# Altium integrated library AMCC PowerPC 440.IntLib: 120 symbols (part 31 of 33)
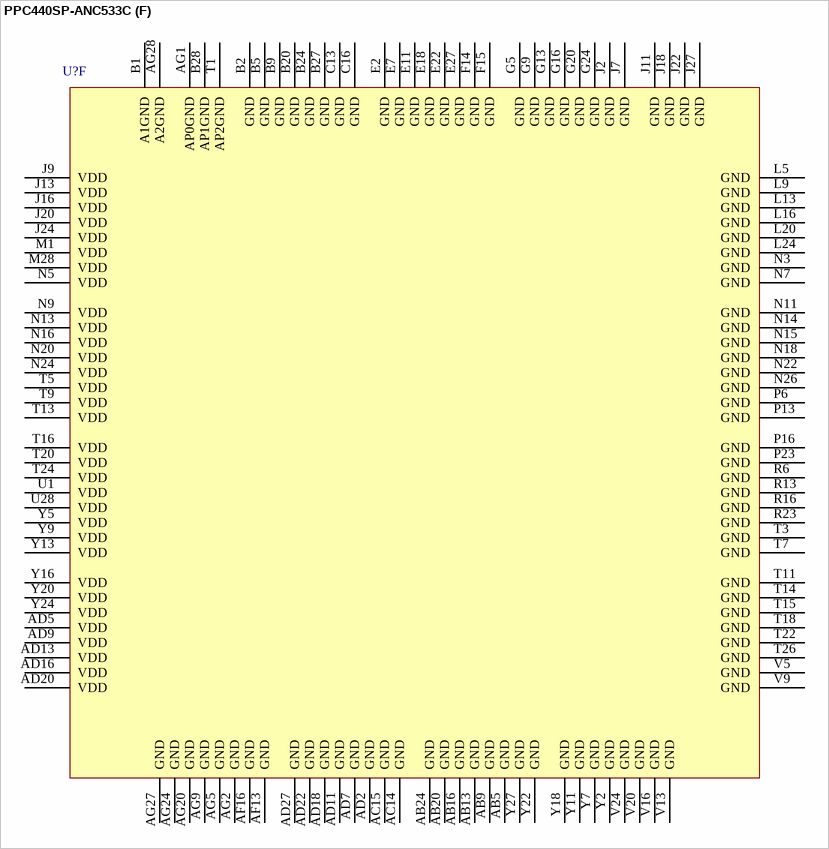
[diagram p429: symbol PPC440SP-ANC533C]

## PPC440SP-ANC533C
designator U?
PowerPC 440SP Embedded Processor, 533MHz, 29mm, 783 Ball FC-PBGA, Pb-Free, rev C; Published: 2-Mar-2006; LatestRevisionDate: 13-Apr-2006; LatestRevisionNote: IPC-7351 Footprint Added.; DatasheetVersion: rev1.18, May-2006; PackageVersion: Nov-2005; PackageReference: FC-PBGA783; Publisher: Altium Limited; PackageDescription: 783-Ball Flip Chip Plastic Ball Grid Array; ComponentLink1Description: Manufacturer Link; ComponentLink1URL: http://www.amcc.com/; ComponentLink2Description: Datasheet; ComponentLink2URL: https://www.amcc.com/MyAMCC/retrieveDocument/PowerPC/440SP/PPC440SP_DS2013_v1_18.pdf
footprint FC-PBGA783 (BGA, 783-Leads, Body 29x29mm, Pitch 1mm)
3D model PPC440SP-FC-PBGA783 (783-Ball Flip Chip Plastic Ball Grid Array)
part A pins: A2 EMCTxD7 (out), A3 EMCTxErr (out), A4 PerClk (out), A10 TDI (in), A14 SysPartSel (in), A18 TestEn (in), AA23 ECC5 (io), AA24 DM8 (out), AA26 DM1 (out), AA27 ~{DQS1} (io), AA28 DQS1 (io), AB25 ~{DQS8} (io), AB26 DQS8 (io), AC23 ECC3 (io), AC24 ECC0 (io), AD21 BA0 (out), AD23 ECC4 (io), AD25 ~{DQS0} (io), AD26 DQS0 (io), AE20 BA1 (out), AE23 ClkEn0 (out), AE24 ClkEn1 (out), AE25 BA2 (out), AE26 DM0 (out), AF20 ECC7 (io), AH24 ~{RAS} (out), AH25 ~{CAS} (out), B3 PerErr (in), B4 ~{PerBLast} (out), B6 ~{HISRRst} (in), B8 EMCGTxClk (in), B10 ~{TRST} (in), C2 PerPar0 (io), C4 EMCTxEn (out), C10 TMS (in), D1 EMCMDClk (out), D2 EMCCD (in), D3 EMCRxClk (in), D4 PerData3 (io), D8 TmrClk (in), D10 TCK (in), D11 TDO (out), D12 EMCRefClk (in), E1 EMCTxClk (in), E3 EMCCrS (in), E4 EMCMDIO (io), E6 PerData5 (io), E12 ~{PerCS1}[GPIO09][TrcTS0] (io), F1 EMCTxD1 (out), F2 EMCTxD0 (out), F3 EMCRxD2 (in), F4 EMCRxD0 (in), F5 EMCRxD6 (in), F6 EMCRxD7 (in), F7 EMCRxDV (in), F12 ~{PerOE} (out), G1 EMCRxD3 (in), G3 EMCTxD3 (out), G4 EMCRxD1 (in), G6 PerData6 (io), G8 PerData4 (io), G12 PerReady[GPIO08][TrcES4] (io), G15 ~{SysRes}e~{t} (in), H1 EMCTxD2 (out), H2 EMCRxD5 (in), H3 EMCRxD4 (in), H4 EMCTxD4 (out), H5 PerData0 (io), H6 PerR/~{W} (out), H7 PerData2 (io), H10 ~{PerCS2}[GPIO10][TrcTS1] (io), H11 ~{ExtReset} (out), J1 EMCRxErr (in), J3 SysClk (in), J4 PerAddr00 (out), J6 PerData7 (io), J8 PerData1 (io), J19 SysErr (out), K1 PerAddr19 (out), K2 PerAddr20 (out), K3 EMCTxD6 (out), K4 EMCTxD5 (out), K5 PerAddr02 (out), K6 PerAddr01 (out), K7 PerAddr07 (out), K8 PerAddr08 (out), K10 ~{PerWE} (out), K18 ~{Halt} (in), K25 DQS4 (io), K26 ~{DQS4} (io), K27 DM4 (out), L1 PerAddr17 (out), L3 PerAddr15 (out), L4 PerAddr16 (out), L6 PerAddr04 (out), L8 PerAddr06 (out), L25 DQS5 (io), L26 ~{DQS5} (io), M4 PerAddr18 (out), M5 PerAddr09 (out), M6 ~{PerCS0} (out), M7 PerAddr05 (out), M8 PerAddr03 (out), M21 DM5 (out), N6 PerAddr11 (out), N8 PerAddr10 (out), N27 DQS3 (io), N28 ~{DQS3} (io), P5 PerAddr13 (out), P7 PerAddr14 (out), P8 PerAddr12 (out), P22 ~{BankSel1} (out), P26 DM3 (out), R5 PerAddr22 (out), R7 PerAddr21 (out), R8 PerAddr23 (out), R9 ~{PerBE0}[GPIO17][UART2_Tx] (io), R21 DM6 (out), R25 ~{DQS6} (io), R26 DQS6 (io), T23 ~{BankSel0} (out), U19 DM7 (out), U25 ~{DQS2} (io), U26 DQS2 (io), V19 ~{WE} (out), V25 DM2 (out), W19 ECC6 (io), W26 ~{DQS7} (io), W27 DQS7 (io), Y21 ECC2 (io), Y23 ECC1 (io)
part B pins: A5 GPIO13[IRQ2][TrcTS4] (io), A6 UART1_Tx[GPIO31] (io), A7 UART1_Rx[GPIO30] (io), A8 ~{UART0_DCD} (in), A9 UARTSerClk (in), A11 ~{UART0_DTR} (out), A13 ~{UART0_RI} (in), AA12 GPIO00[TrcClk][~{PCIX0Req2}] (io), AA20 MemVRef0 (in), AA21 MemVRef1 (in), AA22 MemODT0 (out), AA25 MemData13 (io), AB21 MemDCFdbkD (out), AB23 MemData14 (io), AB28 MemData09 (io), AC13 GPIO02[TrcBS1][~{PCIX0Gnt2}] (io), AC21 MemDCFdbkR (in), AC22 MemODT1 (out), AC25 MemData07 (io), AC26 MemData03 (io), AC27 MemData04 (io), AC28 MemData10 (io), AD19 MemAddr02 (out), AD28 MemData00 (io), AE19 MemAddr03 (out), AE21 MemAddr01 (out), AE22 MemAddr06 (out), AE27 MemData01 (io), AE28 MemData05 (io), AF11 GPIO03[TrcBS2][~{PCIX0Gnt3}] (io), AF19 MemAddr11 (out), AF21 MemAddr07 (out), AF22 MemAddr08 (out), AF23 MemAddr00 (out), AF24 MemAddr14 (out), AF25 MemData06 (io), AF27 MemData02 (io), AG21 MemAddr10 (out), AG23 MemAddr09 (out), AG25 ~{MemClkOut0} (out), AG26 MemClkOut0 (out), AH20 MemAddr12 (out), AH21 MemAddr13 (out), AH22 MemAddr04 (out), AH23 MemAddr05 (out), AH26 MemClkOut1 (out), AH27 ~{MemClkOut1} (out), C5 GPIO14[IRQ3][TrcTS5] (io), C6 GPIO12[IRQ1][TrcTS3] (io), C7 GPIO11[IRQ0][TrcTS2] (io), C8 UART0_Tx (out), C9 ~{UART0_CTS} (in), C11 ~{UART0_DSR} (in), C23 GPIO04[TrcES0][~{PCIX1Req2}] (io), D5 GPIO16[IRQ5][UART2_Rx] (io), D6 GPIO15[IRQ4][TrcTS6] (io), D9 IIC0SClk (io), D21 GPIO06[TrcES2][~{PCIX1Gnt2}] (io), D23 GPIO07[TrcES3][~{PCIX1Gnt3}] (io), E8 IIC0SDA (io), E10 IIC1SDA (io), E23 GPIO05[TrcES1][~{PCIX1Req3}] (io), F8 IIC1SClk (io), F10 ~{UART1_DSR}/~{CTS} (in), F11 ~{UART0_RTS} (out), G10 ~{UART1}_/~{DTR}/~{RTS} (out), H12 UART0_Rx (in), H26 MemData39 (io), H27 MemData36 (io), H28 MemData35 (io), J26 MemData32 (io), J28 MemData37 (io), K24 MemData45 (io), K28 MemData33 (io), L28 MemData34 (io), M22 MemData42 (io), M23 MemData41 (io), M24 MemData46 (io), M25 MemData31 (io), M26 MemData28 (io), M27 MemData27 (io), N19 MemData47 (io), N21 MemData44 (io), N23 MemData43 (io), N25 MemData24 (io), P20 MemData40 (io), P21 MemData38 (io), P24 MemData54 (io), P25 MemData29 (io), P28 MemData25 (io), R20 MemData53 (io), R22 MemData49 (io), R24 MemData50 (io), R28 MemData26 (io), T19 MemData52 (io), T21 MemData55 (io), T25 MemData19 (io), T27 MemData20 (io), T28 MemData23 (io), U20 MemData57 (io), U21 MemData58 (io), U22 MemData51 (io), U23 MemData48 (io), U24 MemData30 (io), U27 MemData16 (io), V21 MemData62 (io), V23 MemData61 (io), V26 MemData21 (io), V28 MemData17 (io), W20 MemData63 (io), W21 MemData60 (io), W22 MemData56 (io), W23 MemData22 (io), W24 MemData59 (io), W25 MemData15 (io), W28 MemData18 (io), Y12 GPIO01[TrcBS0][~{PCIX0Req3}] (io), Y25 MemData12 (io), Y26 MemData08 (io), Y28 MemData11 (io)
part C pins: A15 PCIX1AD16 (io), A16 PCIX1AD19 (io), A19 PCIX1AD03 (io), AA8 PCIX0CalG0 (in), AA9 PCIX0AD09 (io), AA10 PCIX0AD13 (io), AA11 PCIX0AD07 (io), AA13 PCIX0Cap (in), AA14 PCIX0AD58 (io), AA15 PCIX0AD63 (io), AA16 PCIX0AD61 (io), AA17 PCIX0AD43 (io), AA18 PCIX0AD37 (io), AA19 PCIX0CalR1 (in), AB8 PCIX0CalR0 (in), AB10 PCIX0AD14 (io), AB12 ~{PCIX0INTA} (out), AB14 PCIX0AD56 (io), AB15 PCIX0AD57 (io), AB17 PCIX0AD45 (io), AB19 PCIX0AD47 (io), AC8 PCIX0AD10 (io), AC9 PCIX0AD08 (io), AC10 PCIX0VRef1 (in), AC11 PCIX0VRef0 (in), AC12 ~{PCIX0Frame} (io), AC16 PCIX0AD62 (io), AC17 PCIX0AD46 (io), AC18 PCIX0AD48 (io), AC19 PCIX0AD44 (io), AC20 PCIX0AD39 (io), AD3 PCIX0ECC5 (io), AD4 PCIX0AD28 (io), AD6 PCIX0AD21 (io), AD8 PCIX0AD11 (io), AD10 PCIX0AD12 (io), AD12 ~{PCIX0SErr} (io), AD14 PCIX0M66En (in), AD15 PCIX0AD55 (io), AD17 PCIX0AD36 (io), AE1 PCIX0AD30 (io), AE2 PCIX0AD31 (io), AE3 PCIX0AD27 (io), AE5 PCIX0AD29 (io), AE6 ~{PCIX0BE3} (io), AE7 ~{PCIX0BE2} (io), AE8 PCIX0AD18 (io), AE9 PCIX0AD03 (io), AE10 PCIX0AD02 (io), AE11 PCIX0AD01 (io), AE12 PCIX0AD00 (io), AE13 ~{PCIX0Stop} (io), AE14 ~{PCIX0BE7} (io), AE15 PCIX0AD54 (io), AE16 ~{PCIX0BE6} (io), AE17 PCIX0AD40 (io), AE18 PCIX0AD32 (io), AF2 PCIX0AD26 (io), AF4 PCIX0AD20 (io), AF5 PCIX0AD19 (io), AF6 PCIX0AD16 (io), AF7 PCIX0AD17 (io), AF8 PCIX0AD23 (io), AF9 ~{PCIX0BE0} (io), AF10 PCIX0AD04 (io), AF12 PCIX0Clk (in), AF14 ~{PCIX0Gnt0}[GPIO18] (io), AF15 PCIX0AD52 (io), AF17 PCIX0AD51 (io), AF18 PCIX0AD33 (io), AG3 PCIX0ECC2 (io), AG4 PCIX0AD22 (io), AG6 PCIX0Par (io), AG8 ~{PCIX0Req64} (io), AG10 ~{PCIX0BE1} (io), AG12 ~{PCIX0Req1}[GPIO21] (io), AG13 ~{PCIX0Gnt1}[GPIO19] (io), AG16 PCIX0AD50 (io), AG17 ~{PCIX0BE5} (io), AG19 PCIX0AD35 (io), AH2 PCIX0AD24 (io), AH3 PCIX0AD25 (io), AH4 PCIX0ECC3 (io), AH5 PCIX0ECC4 (io), AH6 ~{PCIX0Ack64} (io), AH7 PCIX0AD15 (io), AH8 PCIX0AD05 (io), AH9 PCIX0AD06 (io), AH10 PCIX0VC (out), AH11 ~{PCIX0Req0}[GPIO20] (io), AH13 ~{PCIX0Reset} (io), AH14 PCIX0Par64 (io), AH15 PCIX0AD53 (io), AH16 ~{PCIX0BE4} (io), AH18 PCIX0AD49 (io), AH19 PCIX0AD34 (io), B13 PCIX1AD25 (io), B16 PCIX1AD11 (io), B17 PCIX1AD10 (io), C14 PCIX1AD17 (io), C15 PCIX1AD18 (io), C17 PCIX1AD08 (io), C18 PCIX1AD01 (io), D13 PCIX1AD24 (io), D15 PCIX1AD20 (io), D16 PCIX1AD09 (io), D18 PCIX1AD00 (io), E17 PCIX1AD12 (io), E21 PCIX1Clk (in), F16 PCIX1AD04 (io), F18 PCIX1AD02 (io), F19 PCIX1AD14 (io), F20 PCIX1AD06 (io), F21 PCIX1AD07 (io), G14 PCIX1CalG1 (in), G17 PCIX1AD22 (io), G19 PCIX1AD15 (io), G21 PCIX1Cap (in), H14 PCIX1CalR1 (in), H17 PCIX1AD21 (io), H18 PCIX1AD23 (io), H19 PCIX1AD13 (io), H20 PCIX1AD05 (io), K23 ~{PCIX1Ack64} (io), L19 PCIX1CalG0 (in), L21 PCIX1CalR0 (in), W11 ~{PCIX0PErr} (io), W12 ~{PCIX0TRDY} (io), W13 ~{PCIX0IRDY} (io), W16 PCIX0AD60 (io), W17 PCIX0AD42 (io), W18 PCIX0AD38 (io), Y10 ~{PCIX0DevSel} (io), Y14 PCIX0IDSel (in), Y15 PCIX0AD59 (io), Y17 PCIX0AD41 (io), Y19 PCIX0CalG1 (in)
part D pins: A20 ~{PCIX1Reset} (io), A21 PCIX1VC (out), A22 ~{PCIX1INTA} (out), A23 ~{PCIX1SErr} (io), A24 PCIX1Par64/PCIX2ECC7 (io), A25 PCIX1AD61 (io), A26 PCIX1AD60 (io), A27 PCIX1AD40 (io), AA1 PCIX2AD09 (io), AA2 ~{PCIX2BE1} (io), AA3 PCIX2AD12 (io), AA4 PCIX2AD13 (io), AA5 PCIX2AD23 (io), AA6 PCIX2ECC5 (io), AA7 PCIX2ECC2 (io), AB1 PCIX2AD04 (io), AB3 ~{PCIX2BE0} (io), AB4 PCIX2AD05 (io), AB6 PCIX2AD14 (io), AC1 PCIX2AD06 (io), AC2 PCIX2AD07 (io), AC3 PCIX2AD00 (io), AC4 PCIX2AD01 (io), AC5 PCIX2AD02 (io), AC6 PCIX2AD15 (io), AC7 PCIX2Par/PCIX2ECC0 (io), AD1 PCIX2AD03 (io), AE4 ~{PCIX2Req64}/PCIX2ECC6 (io), B12 PCIX1AD26 (io), B19 ~{PCIX1Gnt0}[GPIO22] (io), B21 ~{PCIX1Frame} (io), B23 PCIX1IDSel (in), B25 PCIX1AD56 (io), B26 PCIX1AD51 (io), C12 PCIX1AD27 (io), C19 ~{PCIX1Gnt1}[GPIO23] (io), C20 ~{PCIX1Req0}[GPIO24] (io), C21 ~{PCIX1Stop} (io), C22 ~{PCIX1Req1}[GPIO25] (io), C24 PCIX1AD57 (io), C25 PCIX1AD59 (io), C27 PCIX1AD42 (io), D14 ~{PCIX1BE2} (io), D17 ~{PCIX1BE1} (io), D19 ~{PCIX1DevSel} (io), D20 ~{PCIX1PErr} (io), D22 ~{PCIX1IRDY} (io), D24 PCIX1AD58 (io), D25 PCIX1AD62 (io), D26 ~{PCIX1BE4} (io), D27 PCIX1AD43 (io), D28 PCIX1AD35 (io), E14 ~{PCIX1BE3} (io), E15 PCIX1AD28 (io), E19 ~{PCIX1TRDY} (io), E25 PCIX1AD50 (io), E26 PCIX1AD52 (io), E28 PCIX1AD32 (io), F17 ~{PCIX1BE0} (io), F22 ~{PCIX1BE7} (io), F23 PCIX1ECC5 (io), F24 PCIX1AD63 (io), F25 ~{PCIX1}~{BE5} (io), F26 PCIX1AD44 (io), F27 PCIX1AD34 (io), F28 PCIX1AD33 (io), G23 PCIX1M66En (in), G25 ~{PCIX1BE6} (io), G26 PCIX1AD41 (io), G28 PCIX1AD36 (io), H15 PCIX1ECC4 (io), H16 PCIX1AD30 (io), H21 PCIX1ECC2 (io), H22 PCIX1ECC3 (io), H23 PCIX1AD55 (io), H24 ~{PCIX1Req64} (io), H25 PCIX1AD48 (io), J15 PCIX1AD31 (io), J17 PCIX1VRef0 (in), J21 PCIX1AD54 (io), J23 PCIX1AD53 (io), J25 PCIX1AD49 (io), K16 PCIX1AD29 (io), K17 PCIX1VRef1 (in), K19 PCIX1Par (io), K20 PCIX1AD47 (io), K21 PCIX1AD46 (io), K22 PCIX1AD45 (io), L23 PCIX1AD39 (io), M2 ~{PCIX2Stop} (io), M3 ~{PCIX2DevSel} (io), M19 PCIX1AD38 (io), M20 PCIX1AD37 (io), N1 PCIX2ECC4 (io), N2 ~{PCIX2TRDY} (io), N4 ~{PCIX2Req1}[GPIO29] (io), P1 ~{PCIX2Gnt0}[GPIO26] (io), P3 ~{PCIX2Gnt1}[GPIO27] (io), P4 ~{PCIX2IRDY} (io), R3 PCIX2Clk (in), R4 PCIX2VRef0 (in), T2 PCIX2AD27 (io), T4 PCIX2AD26 (io), T6 PCIX2M66En (in), T8 PCIX2Cap (in), T10 PCIX2IDSel (in), U2 ~{PCIX2BE3} (io), U3 PCIX2AD25 (io), U4 PCIX2AD28 (io), U5 ~{PCIX2Req0}[GPIO28] (io), U6 ~{PCIX2PErr} (io), U7 ~{PCIX2INTA} (out), U8 ~{PCIX2Frame} (io), U9 PCIX2ECC3 (io), U10 PCIX2VRef1 (in), V1 PCIX2AD24 (io), V3 ~{PCIX2BE2} (io), V4 PCIX2AD20 (io), V6 ~{PCIX2Reset} (io), V8 ~{PCIX2SErr} (io), V10 PCIX2VC (out), W1 PCIX2AD17 (io), W2 PCIX2AD16 (io), W3 PCIX2AD18 (io), W4 PCIX2AD19 (io), W5 PCIX2AD31 (io), W6 PCIX2AD30 (io), W7 PCIX2AD29 (io), W8 PCIX2CalG0 (in), W9 PCIX2CalR0 (in), W10 ~{PCIX2Ack64}/PCIX0ECC1 (io), Y1 PCIX2AD11 (io), Y3 PCIX2AD10 (io), Y4 PCIX2AD08 (io), Y6 PCIX2AD21 (io), Y8 PCIX2AD22 (io)
part E pins: A12 VDD (power), A17 VDD (power), A28 VDD (power), AB2 P2VDD (power), AB7 P0VDD (power), AB11 P0VDD (power), AB18 P0VDD (power), AB22 P0VDD (power), AB27 SVDD (power), AD24 VDD (power), AF1 AP0VDD (power), AF3 P2VDD (power), AF26 SVDD (power), AF28 A2VDD (power), AG7 P0VDD (power), AG11 P0VDD (power), AG14 P0VDD (power), AG15 P0VDD (power), AG18 P0VDD (power), AG22 P0VDD (power), AH1 VDD (power), AH12 VDD (power), AH17 VDD (power), AH28 VDD (power), B7 OVDD (power), B11 OVDD (power), B14 OVDD (power), B15 OVDD (power), B18 P1VDD (power), B22 P1VDD (power), C1 A1VDD (power), C3 OVDD (power), C26 P1VDD (power), C28 AP1VDD (power), D7 Reserved, E5 VDD (power), E9 VDD (power), E13 VDD (power), E16 VDD (power), E20 VDD (power), E24 VDD (power), F9 Reserved, F13 Reserved, G2 OVDD (power), G7 OVDD (power), G11 OVDD (power), G18 P1VDD (power), G22 P1VDD (power), G27 P1VDD (power), H8 Reserved, H9 Reserved, H13 Reserved, J5 VDD (power), J10 Reserved, J12 Reserved, J14 Reserved, K9 Reserved, K11 Reserved, K12 Reserved, K13 Reserved, K14 OVDD (power), K15 OVDD (power), L2 OVDD (power), L7 OVDD (power), L10 Reserved, L11 OVDD (power), L12 Reserved, L14 Reserved, L15 Reserved, L17 Reserved, L18 P1VDD (power), L22 P1VDD (power), L27 P1VDD (power), M9 Reserved, M10 Reserved, M11 Reserved, M12 PSRO (power), M13 Reserved, M14 Reserved, M15 Reserved, M16 Reserved, M17 PSRO (power), M18 Reserved, N10 Reserved, N12 Reserved, N17 Reserved, P2 P2VDD (power), P9 Reserved, P10 OVDD (power), P11 Reserved, P12 Reserved, P14 OVDD (power), P15 P1VDD (power), P17 Reserved, P18 Reserved, P19 SVDD (power), P27 SVDD (power), R1 AP2VDD (power), R2 P2VDD (power), R10 P2VDD (power), R11 Reserved, R12 Reserved, R14 P0VDD (power), R15 SVDD (power), R17 Reserved, R18 Reserved, R19 SVDD (power), R27 SVDD (power), T12 Reserved, T17 Reserved, U11 Reserved, U12 PSRO (power), U13 Reserved, U14 Reserved, U15 Reserved, U16 Reserved, U17 PSRO (power), U18 Reserved, V2 P2VDD (power), V7 P2VDD (power), V11 P2VDD (power), V12 Reserved, V14 Reserved, V15 Reserved, V17 Reserved, V18 SVDD (power), V22 SVDD (power), V27 SVDD (power), W14 P0VDD (power), W15 P0VDD (power)
part F pins: AB5 GND (power), AB9 GND (power), AB13 GND (power), AB16 GND (power), AB20 GND (power), AB24 GND (power), AC14 GND (power), AC15 GND (power), AD2 GND (power), AD5 VDD (power), AD7 GND (power), AD9 VDD (power), AD11 GND (power), AD13 VDD (power), AD16 VDD (power), AD18 GND (power), AD20 VDD (power), AD22 GND (power), AD27 GND (power), AF13 GND (power), AF16 GND (power), AG1 AP0GND (power), AG2 GND (power), AG5 GND (power), AG9 GND (power), AG20 GND (power), AG24 GND (power), AG27 GND (power), AG28 A2GND (power), B1 A1GND (power), B2 GND (power), B5 GND (power), B9 GND (power), B20 GND (power), B24 GND (power), B27 GND (power), B28 AP1GND (power), C13 GND (power), C16 GND (power), E2 GND (power), E7 GND (power), E11 GND (power), E18 GND (power), E22 GND (power), E27 GND (power), F14 GND (power), F15 GND (power), G5 GND (power), G9 GND (power), G13 GND (power), G16 GND (power), G20 GND (power), G24 GND (power), J2 GND (power), J7 GND (power), J9 VDD (power), J11 GND (power), J13 VDD (power), J16 VDD (power), J18 GND (power), J20 VDD (power), J22 GND (power), J24 VDD (power), J27 GND (power), L5 GND (power), L9 GND (power), L13 GND (power), L16 GND (power), L20 GND (power), L24 GND (power), M1 VDD (power), M28 VDD (power), N3 GND (power), N5 VDD (power), N7 GND (power), N9 VDD (power), N11 GND (power), N13 VDD (power), N14 GND (power), N15 GND (power), N16 VDD (power), N18 GND (power), N20 VDD (power), N22 GND (power), N24 VDD (power), N26 GND (power), P6 GND (power), P13 GND (power), P16 GND (power), P23 GND (power), R6 GND (power), R13 GND (power), R16 GND (power), R23 GND (power), T1 AP2GND (power), T3 GND (power), T5 VDD (power), T7 GND (power), T9 VDD (power), T11 GND (power), T13 VDD (power), T14 GND (power), T15 GND (power), T16 VDD (power), T18 GND (power), T20 VDD (power), T22 GND (power), T24 VDD (power), T26 GND (power), U1 VDD (power), U28 VDD (power), V5 GND (power), V9 GND (power), V13 GND (power), V16 GND (power), V20 GND (power), V24 GND (power), Y2 GND (power), Y5 VDD (power), Y7 GND (power), Y9 VDD (power), Y11 GND (power), Y13 VDD (power), Y16 VDD (power), Y18 GND (power), Y20 VDD (power), Y22 GND (power), Y24 VDD (power), Y27 GND (power)

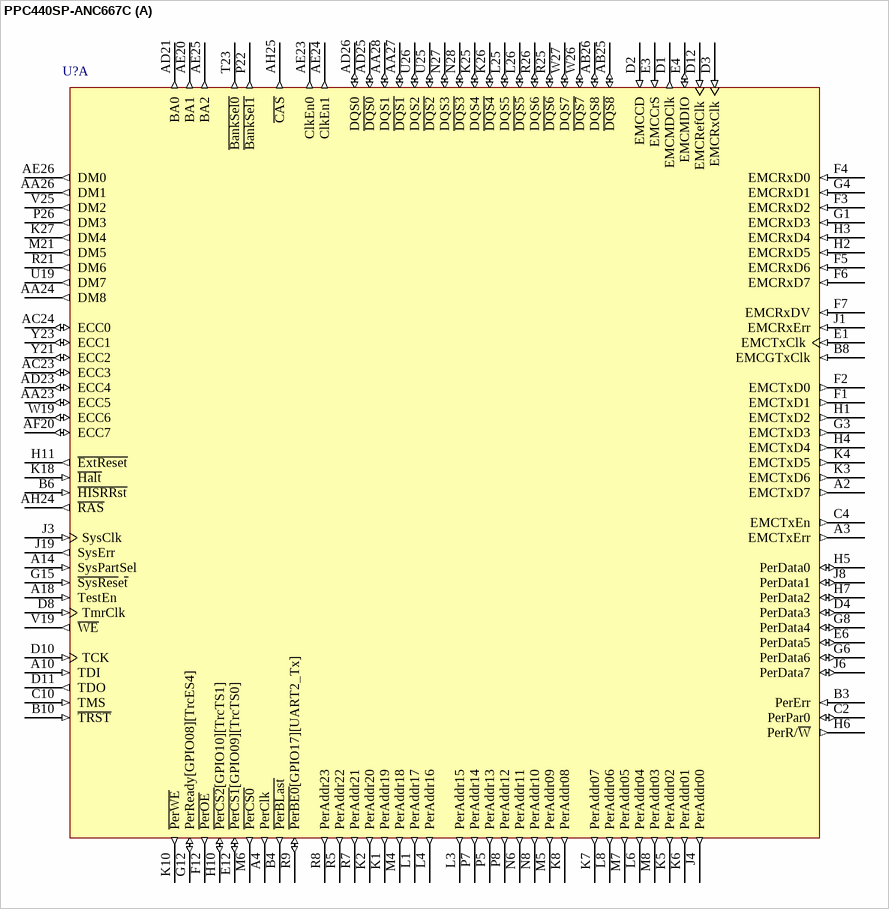
[diagram p382: symbol PPC440SP-ANC667C]

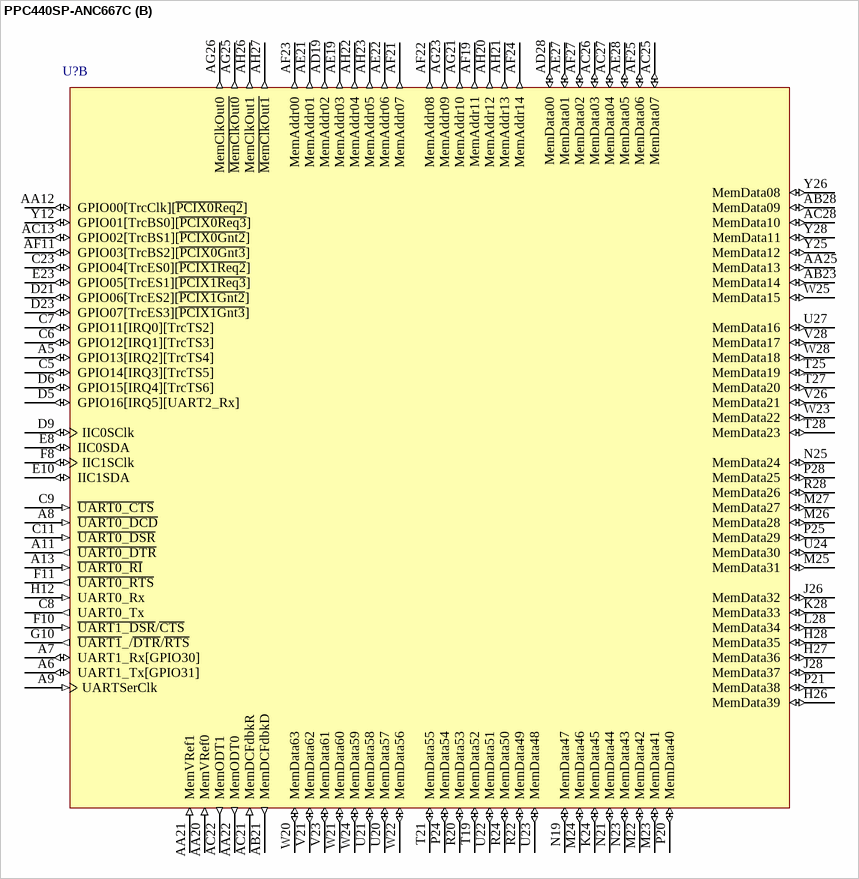
[diagram p383: symbol PPC440SP-ANC667C]

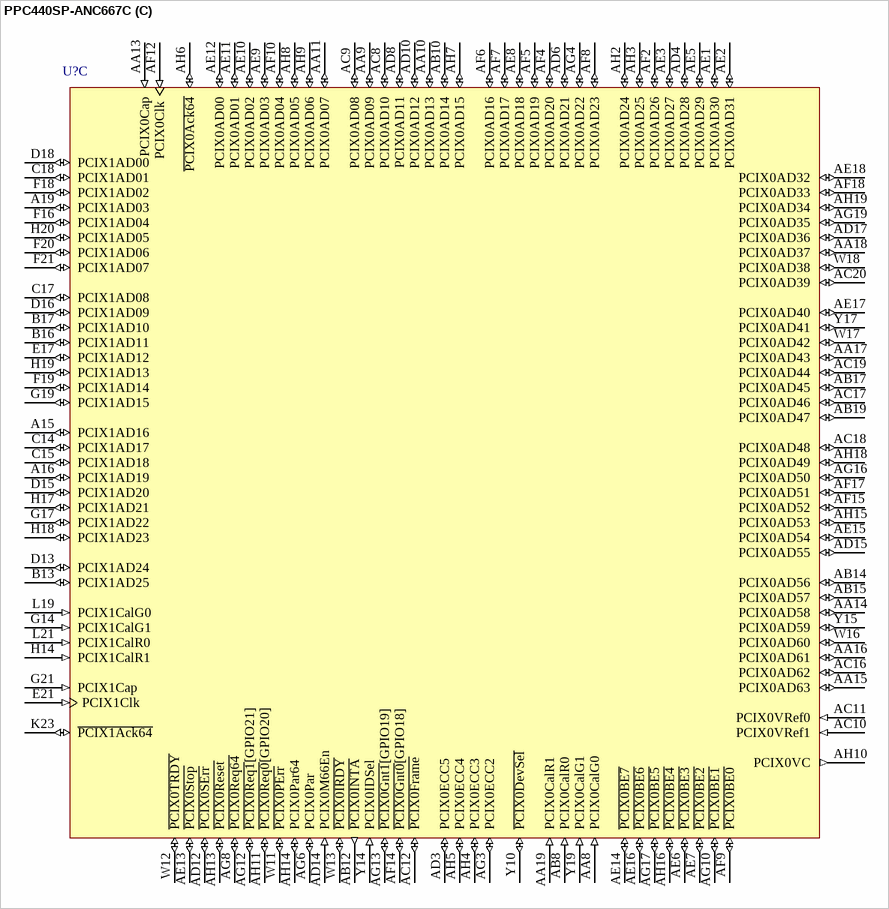
[diagram p384: symbol PPC440SP-ANC667C]

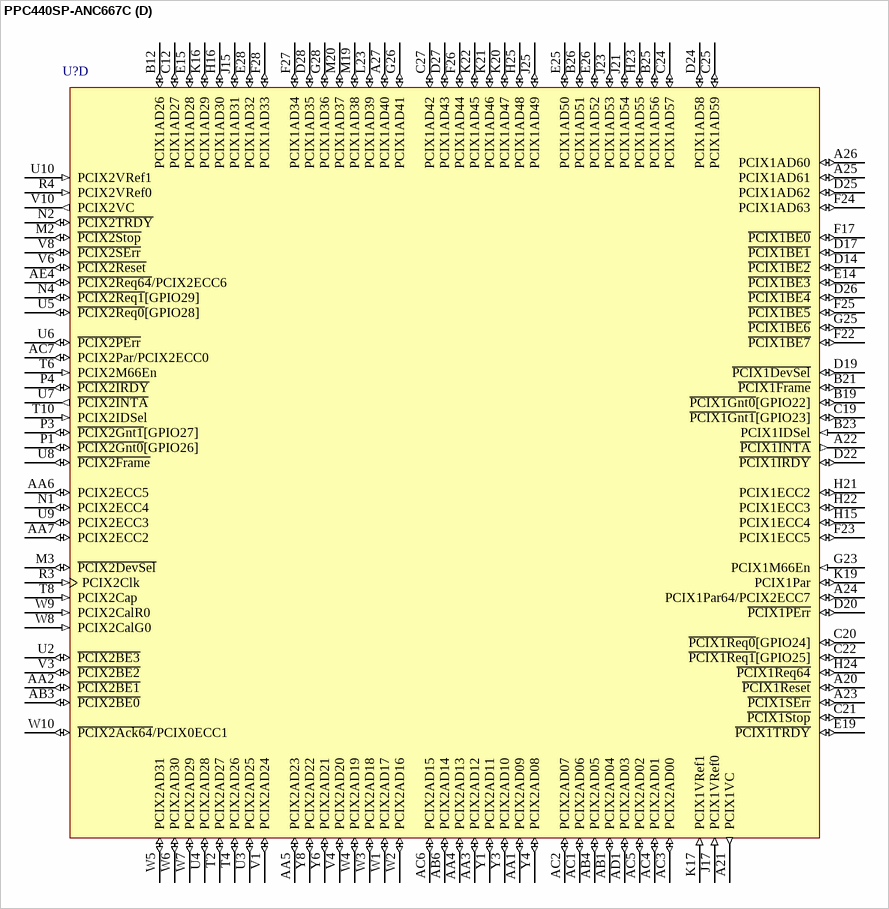
[diagram p385: symbol PPC440SP-ANC667C]

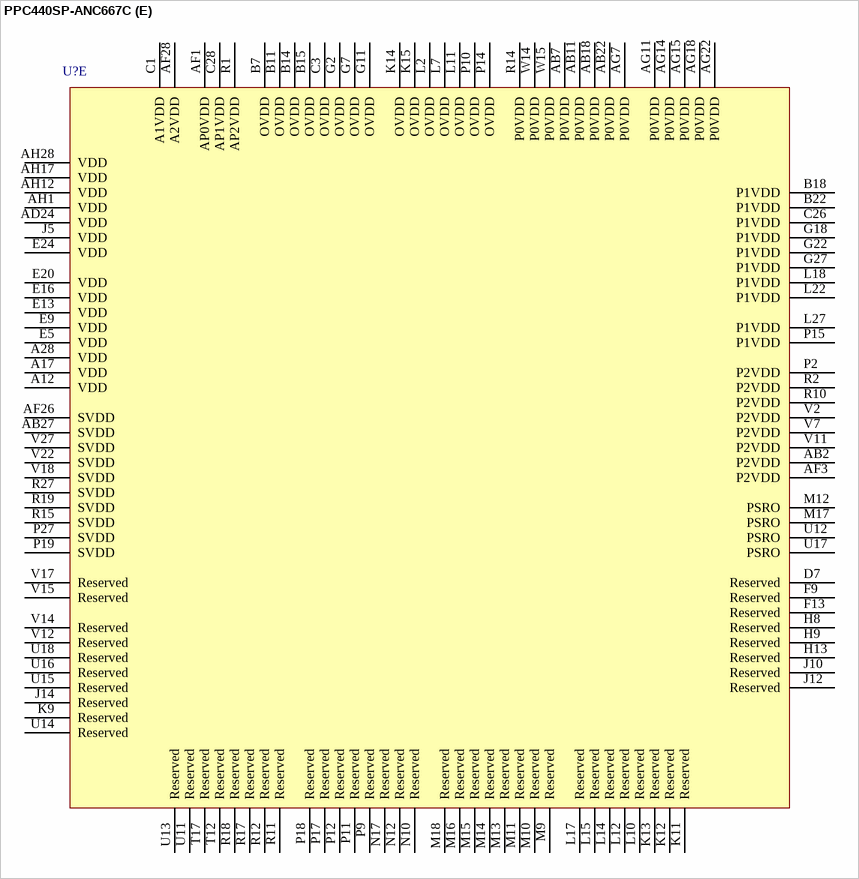
[diagram p386: symbol PPC440SP-ANC667C]

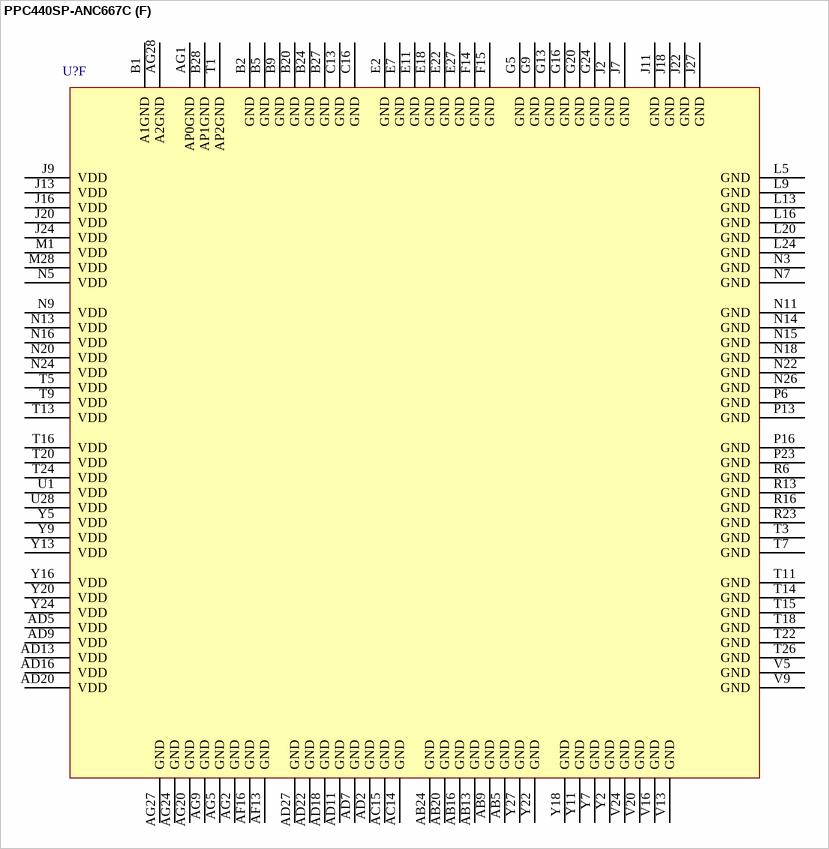
[diagram p387: symbol PPC440SP-ANC667C]

## PPC440SP-ANC667C
designator U?
PowerPC 440SP Embedded Processor, 667MHz, 29mm, 783 Ball FC-PBGA, Pb-Free, rev C; Published: 2-Mar-2006; LatestRevisionDate: 13-Apr-2006; LatestRevisionNote: IPC-7351 Footprint Added.; DatasheetVersion: rev1.18, May-2006; PackageVersion: Nov-2005; PackageReference: FC-PBGA783; Publisher: Altium Limited; PackageDescription: 783-Ball Flip Chip Plastic Ball Grid Array; ComponentLink1Description: Manufacturer Link; ComponentLink1URL: http://www.amcc.com/; ComponentLink2Description: Datasheet; ComponentLink2URL: https://www.amcc.com/MyAMCC/retrieveDocument/PowerPC/440SP/PPC440SP_DS2013_v1_18.pdf
footprint FC-PBGA783 (BGA, 783-Leads, Body 29x29mm, Pitch 1mm)
3D model PPC440SP-FC-PBGA783 (783-Ball Flip Chip Plastic Ball Grid Array)
part A pins: A2 EMCTxD7 (out), A3 EMCTxErr (out), A4 PerClk (out), A10 TDI (in), A14 SysPartSel (in), A18 TestEn (in), AA23 ECC5 (io), AA24 DM8 (out), AA26 DM1 (out), AA27 ~{DQS1} (io), AA28 DQS1 (io), AB25 ~{DQS8} (io), AB26 DQS8 (io), AC23 ECC3 (io), AC24 ECC0 (io), AD21 BA0 (out), AD23 ECC4 (io), AD25 ~{DQS0} (io), AD26 DQS0 (io), AE20 BA1 (out), AE23 ClkEn0 (out), AE24 ClkEn1 (out), AE25 BA2 (out), AE26 DM0 (out), AF20 ECC7 (io), AH24 ~{RAS} (out), AH25 ~{CAS} (out), B3 PerErr (in), B4 ~{PerBLast} (out), B6 ~{HISRRst} (in), B8 EMCGTxClk (in), B10 ~{TRST} (in), C2 PerPar0 (io), C4 EMCTxEn (out), C10 TMS (in), D1 EMCMDClk (out), D2 EMCCD (in), D3 EMCRxClk (in), D4 PerData3 (io), D8 TmrClk (in), D10 TCK (in), D11 TDO (out), D12 EMCRefClk (in), E1 EMCTxClk (in), E3 EMCCrS (in), E4 EMCMDIO (io), E6 PerData5 (io), E12 ~{PerCS1}[GPIO09][TrcTS0] (io), F1 EMCTxD1 (out), F2 EMCTxD0 (out), F3 EMCRxD2 (in), F4 EMCRxD0 (in), F5 EMCRxD6 (in), F6 EMCRxD7 (in), F7 EMCRxDV (in), F12 ~{PerOE} (out), G1 EMCRxD3 (in), G3 EMCTxD3 (out), G4 EMCRxD1 (in), G6 PerData6 (io), G8 PerData4 (io), G12 PerReady[GPIO08][TrcES4] (io), G15 ~{SysRes}e~{t} (in), H1 EMCTxD2 (out), H2 EMCRxD5 (in), H3 EMCRxD4 (in), H4 EMCTxD4 (out), H5 PerData0 (io), H6 PerR/~{W} (out), H7 PerData2 (io), H10 ~{PerCS2}[GPIO10][TrcTS1] (io), H11 ~{ExtReset} (out), J1 EMCRxErr (in), J3 SysClk (in), J4 PerAddr00 (out), J6 PerData7 (io), J8 PerData1 (io), J19 SysErr (out), K1 PerAddr19 (out), K2 PerAddr20 (out), K3 EMCTxD6 (out), K4 EMCTxD5 (out), K5 PerAddr02 (out), K6 PerAddr01 (out), K7 PerAddr07 (out), K8 PerAddr08 (out), K10 ~{PerWE} (out), K18 ~{Halt} (in), K25 DQS4 (io), K26 ~{DQS4} (io), K27 DM4 (out), L1 PerAddr17 (out), L3 PerAddr15 (out), L4 PerAddr16 (out), L6 PerAddr04 (out), L8 PerAddr06 (out), L25 DQS5 (io), L26 ~{DQS5} (io), M4 PerAddr18 (out), M5 PerAddr09 (out), M6 ~{PerCS0} (out), M7 PerAddr05 (out), M8 PerAddr03 (out), M21 DM5 (out), N6 PerAddr11 (out), N8 PerAddr10 (out), N27 DQS3 (io), N28 ~{DQS3} (io), P5 PerAddr13 (out), P7 PerAddr14 (out), P8 PerAddr12 (out), P22 ~{BankSel1} (out), P26 DM3 (out), R5 PerAddr22 (out), R7 PerAddr21 (out), R8 PerAddr23 (out), R9 ~{PerBE0}[GPIO17][UART2_Tx] (io), R21 DM6 (out), R25 ~{DQS6} (io), R26 DQS6 (io), T23 ~{BankSel0} (out), U19 DM7 (out), U25 ~{DQS2} (io), U26 DQS2 (io), V19 ~{WE} (out), V25 DM2 (out), W19 ECC6 (io), W26 ~{DQS7} (io), W27 DQS7 (io), Y21 ECC2 (io), Y23 ECC1 (io)
part B pins: A5 GPIO13[IRQ2][TrcTS4] (io), A6 UART1_Tx[GPIO31] (io), A7 UART1_Rx[GPIO30] (io), A8 ~{UART0_DCD} (in), A9 UARTSerClk (in), A11 ~{UART0_DTR} (out), A13 ~{UART0_RI} (in), AA12 GPIO00[TrcClk][~{PCIX0Req2}] (io), AA20 MemVRef0 (in), AA21 MemVRef1 (in), AA22 MemODT0 (out), AA25 MemData13 (io), AB21 MemDCFdbkD (out), AB23 MemData14 (io), AB28 MemData09 (io), AC13 GPIO02[TrcBS1][~{PCIX0Gnt2}] (io), AC21 MemDCFdbkR (in), AC22 MemODT1 (out), AC25 MemData07 (io), AC26 MemData03 (io), AC27 MemData04 (io), AC28 MemData10 (io), AD19 MemAddr02 (out), AD28 MemData00 (io), AE19 MemAddr03 (out), AE21 MemAddr01 (out), AE22 MemAddr06 (out), AE27 MemData01 (io), AE28 MemData05 (io), AF11 GPIO03[TrcBS2][~{PCIX0Gnt3}] (io), AF19 MemAddr11 (out), AF21 MemAddr07 (out), AF22 MemAddr08 (out), AF23 MemAddr00 (out), AF24 MemAddr14 (out), AF25 MemData06 (io), AF27 MemData02 (io), AG21 MemAddr10 (out), AG23 MemAddr09 (out), AG25 ~{MemClkOut0} (out), AG26 MemClkOut0 (out), AH20 MemAddr12 (out), AH21 MemAddr13 (out), AH22 MemAddr04 (out), AH23 MemAddr05 (out), AH26 MemClkOut1 (out), AH27 ~{MemClkOut1} (out), C5 GPIO14[IRQ3][TrcTS5] (io), C6 GPIO12[IRQ1][TrcTS3] (io), C7 GPIO11[IRQ0][TrcTS2] (io), C8 UART0_Tx (out), C9 ~{UART0_CTS} (in), C11 ~{UART0_DSR} (in), C23 GPIO04[TrcES0][~{PCIX1Req2}] (io), D5 GPIO16[IRQ5][UART2_Rx] (io), D6 GPIO15[IRQ4][TrcTS6] (io), D9 IIC0SClk (io), D21 GPIO06[TrcES2][~{PCIX1Gnt2}] (io), D23 GPIO07[TrcES3][~{PCIX1Gnt3}] (io), E8 IIC0SDA (io), E10 IIC1SDA (io), E23 GPIO05[TrcES1][~{PCIX1Req3}] (io), F8 IIC1SClk (io), F10 ~{UART1_DSR}/~{CTS} (in), F11 ~{UART0_RTS} (out), G10 ~{UART1}_/~{DTR}/~{RTS} (out), H12 UART0_Rx (in), H26 MemData39 (io), H27 MemData36 (io), H28 MemData35 (io), J26 MemData32 (io), J28 MemData37 (io), K24 MemData45 (io), K28 MemData33 (io), L28 MemData34 (io), M22 MemData42 (io), M23 MemData41 (io), M24 MemData46 (io), M25 MemData31 (io), M26 MemData28 (io), M27 MemData27 (io), N19 MemData47 (io), N21 MemData44 (io), N23 MemData43 (io), N25 MemData24 (io), P20 MemData40 (io), P21 MemData38 (io), P24 MemData54 (io), P25 MemData29 (io), P28 MemData25 (io), R20 MemData53 (io), R22 MemData49 (io), R24 MemData50 (io), R28 MemData26 (io), T19 MemData52 (io), T21 MemData55 (io), T25 MemData19 (io), T27 MemData20 (io), T28 MemData23 (io), U20 MemData57 (io), U21 MemData58 (io), U22 MemData51 (io), U23 MemData48 (io), U24 MemData30 (io), U27 MemData16 (io), V21 MemData62 (io), V23 MemData61 (io), V26 MemData21 (io), V28 MemData17 (io), W20 MemData63 (io), W21 MemData60 (io), W22 MemData56 (io), W23 MemData22 (io), W24 MemData59 (io), W25 MemData15 (io), W28 MemData18 (io), Y12 GPIO01[TrcBS0][~{PCIX0Req3}] (io), Y25 MemData12 (io), Y26 MemData08 (io), Y28 MemData11 (io)
part C pins: A15 PCIX1AD16 (io), A16 PCIX1AD19 (io), A19 PCIX1AD03 (io), AA8 PCIX0CalG0 (in), AA9 PCIX0AD09 (io), AA10 PCIX0AD13 (io), AA11 PCIX0AD07 (io), AA13 PCIX0Cap (in), AA14 PCIX0AD58 (io), AA15 PCIX0AD63 (io), AA16 PCIX0AD61 (io), AA17 PCIX0AD43 (io), AA18 PCIX0AD37 (io), AA19 PCIX0CalR1 (in), AB8 PCIX0CalR0 (in), AB10 PCIX0AD14 (io), AB12 ~{PCIX0INTA} (out), AB14 PCIX0AD56 (io), AB15 PCIX0AD57 (io), AB17 PCIX0AD45 (io), AB19 PCIX0AD47 (io), AC8 PCIX0AD10 (io), AC9 PCIX0AD08 (io), AC10 PCIX0VRef1 (in), AC11 PCIX0VRef0 (in), AC12 ~{PCIX0Frame} (io), AC16 PCIX0AD62 (io), AC17 PCIX0AD46 (io), AC18 PCIX0AD48 (io), AC19 PCIX0AD44 (io), AC20 PCIX0AD39 (io), AD3 PCIX0ECC5 (io), AD4 PCIX0AD28 (io), AD6 PCIX0AD21 (io), AD8 PCIX0AD11 (io), AD10 PCIX0AD12 (io), AD12 ~{PCIX0SErr} (io), AD14 PCIX0M66En (in), AD15 PCIX0AD55 (io), AD17 PCIX0AD36 (io), AE1 PCIX0AD30 (io), AE2 PCIX0AD31 (io), AE3 PCIX0AD27 (io), AE5 PCIX0AD29 (io), AE6 ~{PCIX0BE3} (io), AE7 ~{PCIX0BE2} (io), AE8 PCIX0AD18 (io), AE9 PCIX0AD03 (io), AE10 PCIX0AD02 (io), AE11 PCIX0AD01 (io), AE12 PCIX0AD00 (io), AE13 ~{PCIX0Stop} (io), AE14 ~{PCIX0BE7} (io), AE15 PCIX0AD54 (io), AE16 ~{PCIX0BE6} (io), AE17 PCIX0AD40 (io), AE18 PCIX0AD32 (io), AF2 PCIX0AD26 (io), AF4 PCIX0AD20 (io), AF5 PCIX0AD19 (io), AF6 PCIX0AD16 (io), AF7 PCIX0AD17 (io), AF8 PCIX0AD23 (io), AF9 ~{PCIX0BE0} (io), AF10 PCIX0AD04 (io), AF12 PCIX0Clk (in), AF14 ~{PCIX0Gnt0}[GPIO18] (io), AF15 PCIX0AD52 (io), AF17 PCIX0AD51 (io), AF18 PCIX0AD33 (io), AG3 PCIX0ECC2 (io), AG4 PCIX0AD22 (io), AG6 PCIX0Par (io), AG8 ~{PCIX0Req64} (io), AG10 ~{PCIX0BE1} (io), AG12 ~{PCIX0Req1}[GPIO21] (io), AG13 ~{PCIX0Gnt1}[GPIO19] (io), AG16 PCIX0AD50 (io), AG17 ~{PCIX0BE5} (io), AG19 PCIX0AD35 (io), AH2 PCIX0AD24 (io), AH3 PCIX0AD25 (io), AH4 PCIX0ECC3 (io), AH5 PCIX0ECC4 (io), AH6 ~{PCIX0Ack64} (io), AH7 PCIX0AD15 (io), AH8 PCIX0AD05 (io), AH9 PCIX0AD06 (io), AH10 PCIX0VC (out), AH11 ~{PCIX0Req0}[GPIO20] (io), AH13 ~{PCIX0Reset} (io), AH14 PCIX0Par64 (io), AH15 PCIX0AD53 (io), AH16 ~{PCIX0BE4} (io), AH18 PCIX0AD49 (io), AH19 PCIX0AD34 (io), B13 PCIX1AD25 (io), B16 PCIX1AD11 (io), B17 PCIX1AD10 (io), C14 PCIX1AD17 (io), C15 PCIX1AD18 (io), C17 PCIX1AD08 (io), C18 PCIX1AD01 (io), D13 PCIX1AD24 (io), D15 PCIX1AD20 (io), D16 PCIX1AD09 (io), D18 PCIX1AD00 (io), E17 PCIX1AD12 (io), E21 PCIX1Clk (in), F16 PCIX1AD04 (io), F18 PCIX1AD02 (io), F19 PCIX1AD14 (io), F20 PCIX1AD06 (io), F21 PCIX1AD07 (io), G14 PCIX1CalG1 (in), G17 PCIX1AD22 (io), G19 PCIX1AD15 (io), G21 PCIX1Cap (in), H14 PCIX1CalR1 (in), H17 PCIX1AD21 (io), H18 PCIX1AD23 (io), H19 PCIX1AD13 (io), H20 PCIX1AD05 (io), K23 ~{PCIX1Ack64} (io), L19 PCIX1CalG0 (in), L21 PCIX1CalR0 (in), W11 ~{PCIX0PErr} (io), W12 ~{PCIX0TRDY} (io), W13 ~{PCIX0IRDY} (io), W16 PCIX0AD60 (io), W17 PCIX0AD42 (io), W18 PCIX0AD38 (io), Y10 ~{PCIX0DevSel} (io), Y14 PCIX0IDSel (in), Y15 PCIX0AD59 (io), Y17 PCIX0AD41 (io), Y19 PCIX0CalG1 (in)
part D pins: A20 ~{PCIX1Reset} (io), A21 PCIX1VC (out), A22 ~{PCIX1INTA} (out), A23 ~{PCIX1SErr} (io), A24 PCIX1Par64/PCIX2ECC7 (io), A25 PCIX1AD61 (io), A26 PCIX1AD60 (io), A27 PCIX1AD40 (io), AA1 PCIX2AD09 (io), AA2 ~{PCIX2BE1} (io), AA3 PCIX2AD12 (io), AA4 PCIX2AD13 (io), AA5 PCIX2AD23 (io), AA6 PCIX2ECC5 (io), AA7 PCIX2ECC2 (io), AB1 PCIX2AD04 (io), AB3 ~{PCIX2BE0} (io), AB4 PCIX2AD05 (io), AB6 PCIX2AD14 (io), AC1 PCIX2AD06 (io), AC2 PCIX2AD07 (io), AC3 PCIX2AD00 (io), AC4 PCIX2AD01 (io), AC5 PCIX2AD02 (io), AC6 PCIX2AD15 (io), AC7 PCIX2Par/PCIX2ECC0 (io), AD1 PCIX2AD03 (io), AE4 ~{PCIX2Req64}/PCIX2ECC6 (io), B12 PCIX1AD26 (io), B19 ~{PCIX1Gnt0}[GPIO22] (io), B21 ~{PCIX1Frame} (io), B23 PCIX1IDSel (in), B25 PCIX1AD56 (io), B26 PCIX1AD51 (io), C12 PCIX1AD27 (io), C19 ~{PCIX1Gnt1}[GPIO23] (io), C20 ~{PCIX1Req0}[GPIO24] (io), C21 ~{PCIX1Stop} (io), C22 ~{PCIX1Req1}[GPIO25] (io), C24 PCIX1AD57 (io), C25 PCIX1AD59 (io), C27 PCIX1AD42 (io), D14 ~{PCIX1BE2} (io), D17 ~{PCIX1BE1} (io), D19 ~{PCIX1DevSel} (io), D20 ~{PCIX1PErr} (io), D22 ~{PCIX1IRDY} (io), D24 PCIX1AD58 (io), D25 PCIX1AD62 (io), D26 ~{PCIX1BE4} (io), D27 PCIX1AD43 (io), D28 PCIX1AD35 (io), E14 ~{PCIX1BE3} (io), E15 PCIX1AD28 (io), E19 ~{PCIX1TRDY} (io), E25 PCIX1AD50 (io), E26 PCIX1AD52 (io), E28 PCIX1AD32 (io), F17 ~{PCIX1BE0} (io), F22 ~{PCIX1BE7} (io), F23 PCIX1ECC5 (io), F24 PCIX1AD63 (io), F25 ~{PCIX1}~{BE5} (io), F26 PCIX1AD44 (io), F27 PCIX1AD34 (io), F28 PCIX1AD33 (io), G23 PCIX1M66En (in), G25 ~{PCIX1BE6} (io), G26 PCIX1AD41 (io), G28 PCIX1AD36 (io), H15 PCIX1ECC4 (io), H16 PCIX1AD30 (io), H21 PCIX1ECC2 (io), H22 PCIX1ECC3 (io), H23 PCIX1AD55 (io), H24 ~{PCIX1Req64} (io), H25 PCIX1AD48 (io), J15 PCIX1AD31 (io), J17 PCIX1VRef0 (in), J21 PCIX1AD54 (io), J23 PCIX1AD53 (io), J25 PCIX1AD49 (io), K16 PCIX1AD29 (io), K17 PCIX1VRef1 (in), K19 PCIX1Par (io), K20 PCIX1AD47 (io), K21 PCIX1AD46 (io), K22 PCIX1AD45 (io), L23 PCIX1AD39 (io), M2 ~{PCIX2Stop} (io), M3 ~{PCIX2DevSel} (io), M19 PCIX1AD38 (io), M20 PCIX1AD37 (io), N1 PCIX2ECC4 (io), N2 ~{PCIX2TRDY} (io), N4 ~{PCIX2Req1}[GPIO29] (io), P1 ~{PCIX2Gnt0}[GPIO26] (io), P3 ~{PCIX2Gnt1}[GPIO27] (io), P4 ~{PCIX2IRDY} (io), R3 PCIX2Clk (in), R4 PCIX2VRef0 (in), T2 PCIX2AD27 (io), T4 PCIX2AD26 (io), T6 PCIX2M66En (in), T8 PCIX2Cap (in), T10 PCIX2IDSel (in), U2 ~{PCIX2BE3} (io), U3 PCIX2AD25 (io), U4 PCIX2AD28 (io), U5 ~{PCIX2Req0}[GPIO28] (io), U6 ~{PCIX2PErr} (io), U7 ~{PCIX2INTA} (out), U8 ~{PCIX2Frame} (io), U9 PCIX2ECC3 (io), U10 PCIX2VRef1 (in), V1 PCIX2AD24 (io), V3 ~{PCIX2BE2} (io), V4 PCIX2AD20 (io), V6 ~{PCIX2Reset} (io), V8 ~{PCIX2SErr} (io), V10 PCIX2VC (out), W1 PCIX2AD17 (io), W2 PCIX2AD16 (io), W3 PCIX2AD18 (io), W4 PCIX2AD19 (io), W5 PCIX2AD31 (io), W6 PCIX2AD30 (io), W7 PCIX2AD29 (io), W8 PCIX2CalG0 (in), W9 PCIX2CalR0 (in), W10 ~{PCIX2Ack64}/PCIX0ECC1 (io), Y1 PCIX2AD11 (io), Y3 PCIX2AD10 (io), Y4 PCIX2AD08 (io), Y6 PCIX2AD21 (io), Y8 PCIX2AD22 (io)
part E pins: A12 VDD (power), A17 VDD (power), A28 VDD (power), AB2 P2VDD (power), AB7 P0VDD (power), AB11 P0VDD (power), AB18 P0VDD (power), AB22 P0VDD (power), AB27 SVDD (power), AD24 VDD (power), AF1 AP0VDD (power), AF3 P2VDD (power), AF26 SVDD (power), AF28 A2VDD (power), AG7 P0VDD (power), AG11 P0VDD (power), AG14 P0VDD (power), AG15 P0VDD (power), AG18 P0VDD (power), AG22 P0VDD (power), AH1 VDD (power), AH12 VDD (power), AH17 VDD (power), AH28 VDD (power), B7 OVDD (power), B11 OVDD (power), B14 OVDD (power), B15 OVDD (power), B18 P1VDD (power), B22 P1VDD (power), C1 A1VDD (power), C3 OVDD (power), C26 P1VDD (power), C28 AP1VDD (power), D7 Reserved, E5 VDD (power), E9 VDD (power), E13 VDD (power), E16 VDD (power), E20 VDD (power), E24 VDD (power), F9 Reserved, F13 Reserved, G2 OVDD (power), G7 OVDD (power), G11 OVDD (power), G18 P1VDD (power), G22 P1VDD (power), G27 P1VDD (power), H8 Reserved, H9 Reserved, H13 Reserved, J5 VDD (power), J10 Reserved, J12 Reserved, J14 Reserved, K9 Reserved, K11 Reserved, K12 Reserved, K13 Reserved, K14 OVDD (power), K15 OVDD (power), L2 OVDD (power), L7 OVDD (power), L10 Reserved, L11 OVDD (power), L12 Reserved, L14 Reserved, L15 Reserved, L17 Reserved, L18 P1VDD (power), L22 P1VDD (power), L27 P1VDD (power), M9 Reserved, M10 Reserved, M11 Reserved, M12 PSRO (power), M13 Reserved, M14 Reserved, M15 Reserved, M16 Reserved, M17 PSRO (power), M18 Reserved, N10 Reserved, N12 Reserved, N17 Reserved, P2 P2VDD (power), P9 Reserved, P10 OVDD (power), P11 Reserved, P12 Reserved, P14 OVDD (power), P15 P1VDD (power), P17 Reserved, P18 Reserved, P19 SVDD (power), P27 SVDD (power), R1 AP2VDD (power), R2 P2VDD (power), R10 P2VDD (power), R11 Reserved, R12 Reserved, R14 P0VDD (power), R15 SVDD (power), R17 Reserved, R18 Reserved, R19 SVDD (power), R27 SVDD (power), T12 Reserved, T17 Reserved, U11 Reserved, U12 PSRO (power), U13 Reserved, U14 Reserved, U15 Reserved, U16 Reserved, U17 PSRO (power), U18 Reserved, V2 P2VDD (power), V7 P2VDD (power), V11 P2VDD (power), V12 Reserved, V14 Reserved, V15 Reserved, V17 Reserved, V18 SVDD (power), V22 SVDD (power), V27 SVDD (power), W14 P0VDD (power), W15 P0VDD (power)
part F pins: AB5 GND (power), AB9 GND (power), AB13 GND (power), AB16 GND (power), AB20 GND (power), AB24 GND (power), AC14 GND (power), AC15 GND (power), AD2 GND (power), AD5 VDD (power), AD7 GND (power), AD9 VDD (power), AD11 GND (power), AD13 VDD (power), AD16 VDD (power), AD18 GND (power), AD20 VDD (power), AD22 GND (power), AD27 GND (power), AF13 GND (power), AF16 GND (power), AG1 AP0GND (power), AG2 GND (power), AG5 GND (power), AG9 GND (power), AG20 GND (power), AG24 GND (power), AG27 GND (power), AG28 A2GND (power), B1 A1GND (power), B2 GND (power), B5 GND (power), B9 GND (power), B20 GND (power), B24 GND (power), B27 GND (power), B28 AP1GND (power), C13 GND (power), C16 GND (power), E2 GND (power), E7 GND (power), E11 GND (power), E18 GND (power), E22 GND (power), E27 GND (power), F14 GND (power), F15 GND (power), G5 GND (power), G9 GND (power), G13 GND (power), G16 GND (power), G20 GND (power), G24 GND (power), J2 GND (power), J7 GND (power), J9 VDD (power), J11 GND (power), J13 VDD (power), J16 VDD (power), J18 GND (power), J20 VDD (power), J22 GND (power), J24 VDD (power), J27 GND (power), L5 GND (power), L9 GND (power), L13 GND (power), L16 GND (power), L20 GND (power), L24 GND (power), M1 VDD (power), M28 VDD (power), N3 GND (power), N5 VDD (power), N7 GND (power), N9 VDD (power), N11 GND (power), N13 VDD (power), N14 GND (power), N15 GND (power), N16 VDD (power), N18 GND (power), N20 VDD (power), N22 GND (power), N24 VDD (power), N26 GND (power), P6 GND (power), P13 GND (power), P16 GND (power), P23 GND (power), R6 GND (power), R13 GND (power), R16 GND (power), R23 GND (power), T1 AP2GND (power), T3 GND (power), T5 VDD (power), T7 GND (power), T9 VDD (power), T11 GND (power), T13 VDD (power), T14 GND (power), T15 GND (power), T16 VDD (power), T18 GND (power), T20 VDD (power), T22 GND (power), T24 VDD (power), T26 GND (power), U1 VDD (power), U28 VDD (power), V5 GND (power), V9 GND (power), V13 GND (power), V16 GND (power), V20 GND (power), V24 GND (power), Y2 GND (power), Y5 VDD (power), Y7 GND (power), Y9 VDD (power), Y11 GND (power), Y13 VDD (power), Y16 VDD (power), Y18 GND (power), Y20 VDD (power), Y22 GND (power), Y24 VDD (power), Y27 GND (power)

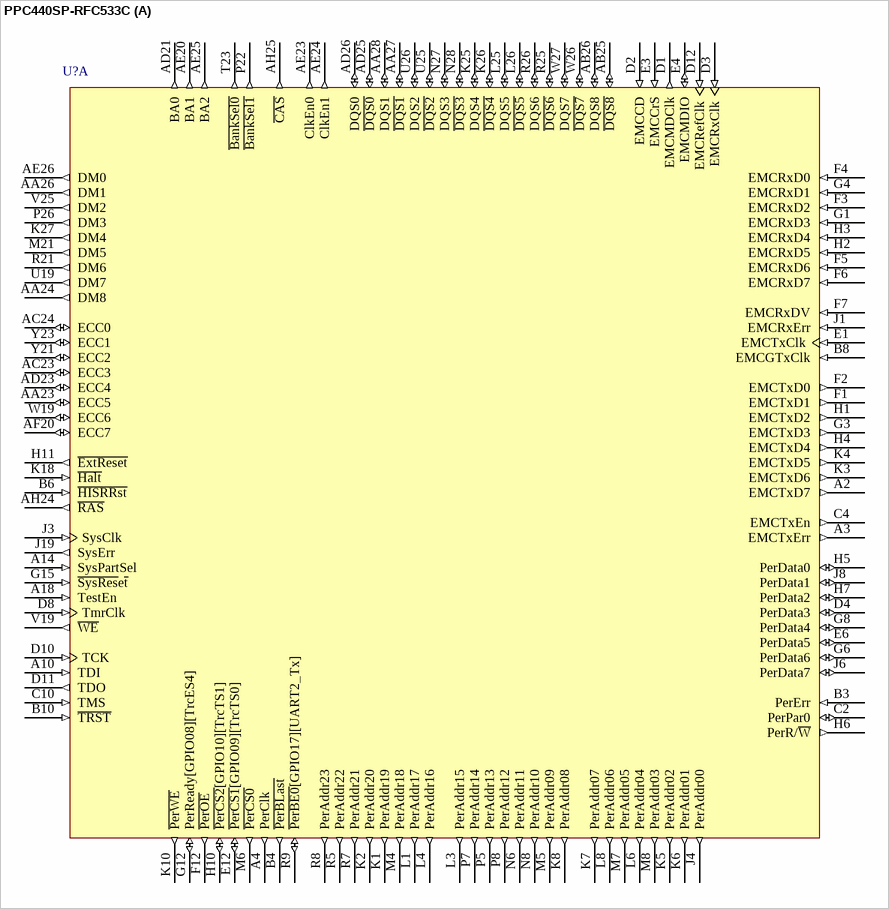
[diagram p388: symbol PPC440SP-RFC533C]

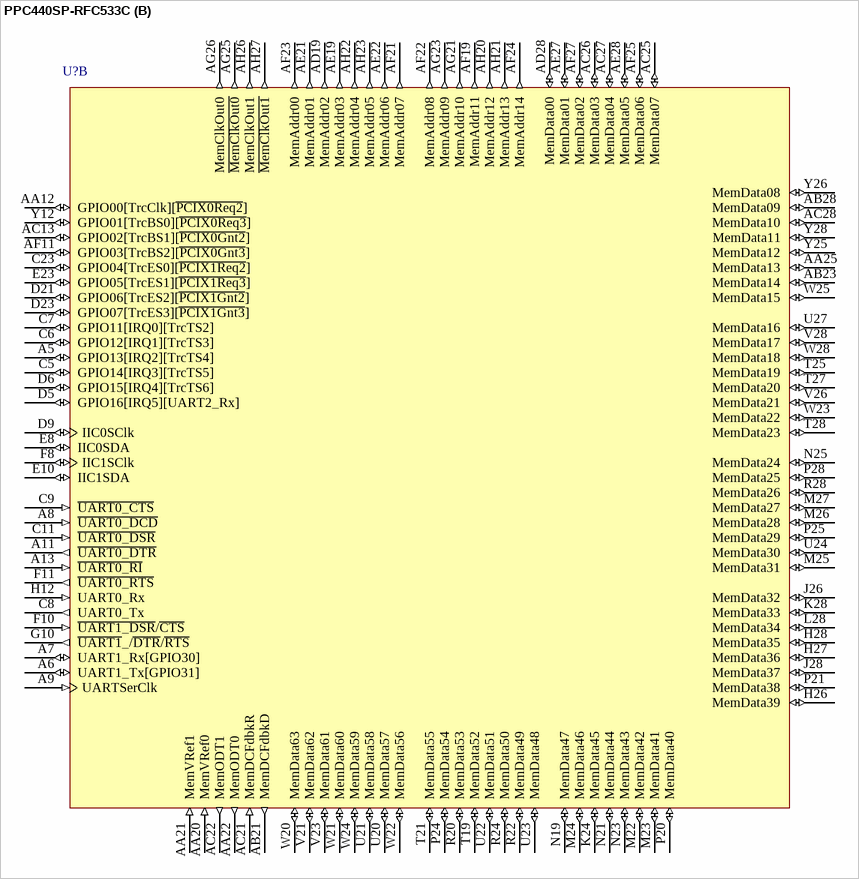
[diagram p389: symbol PPC440SP-RFC533C]

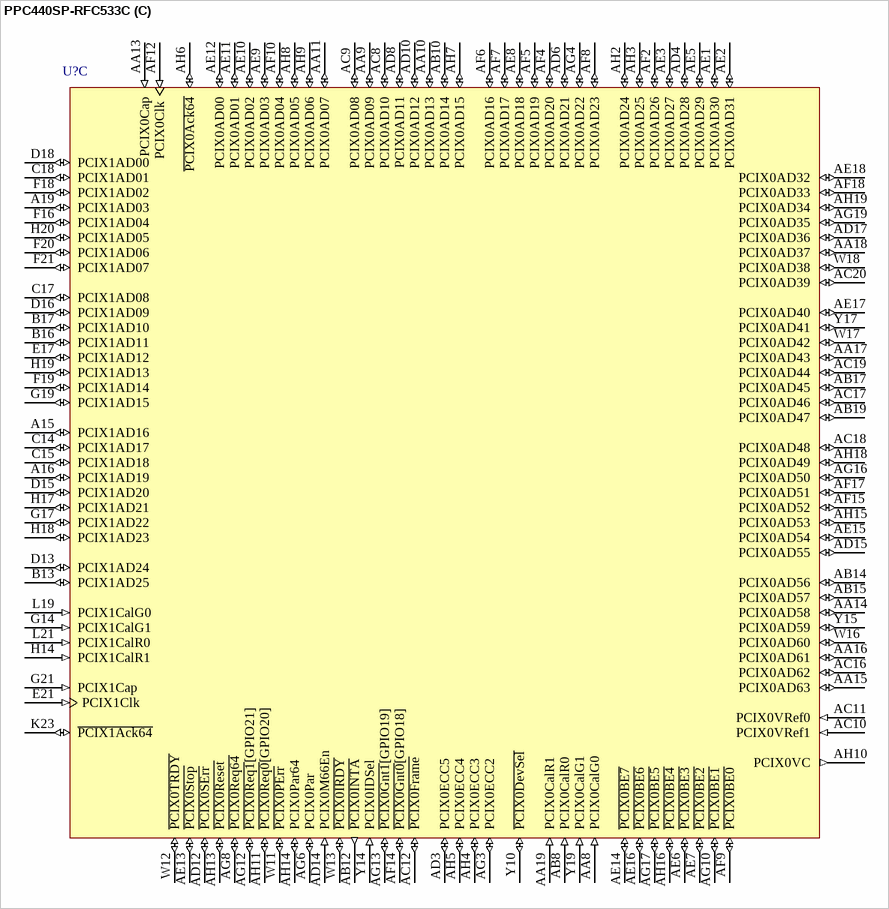
[diagram p390: symbol PPC440SP-RFC533C]

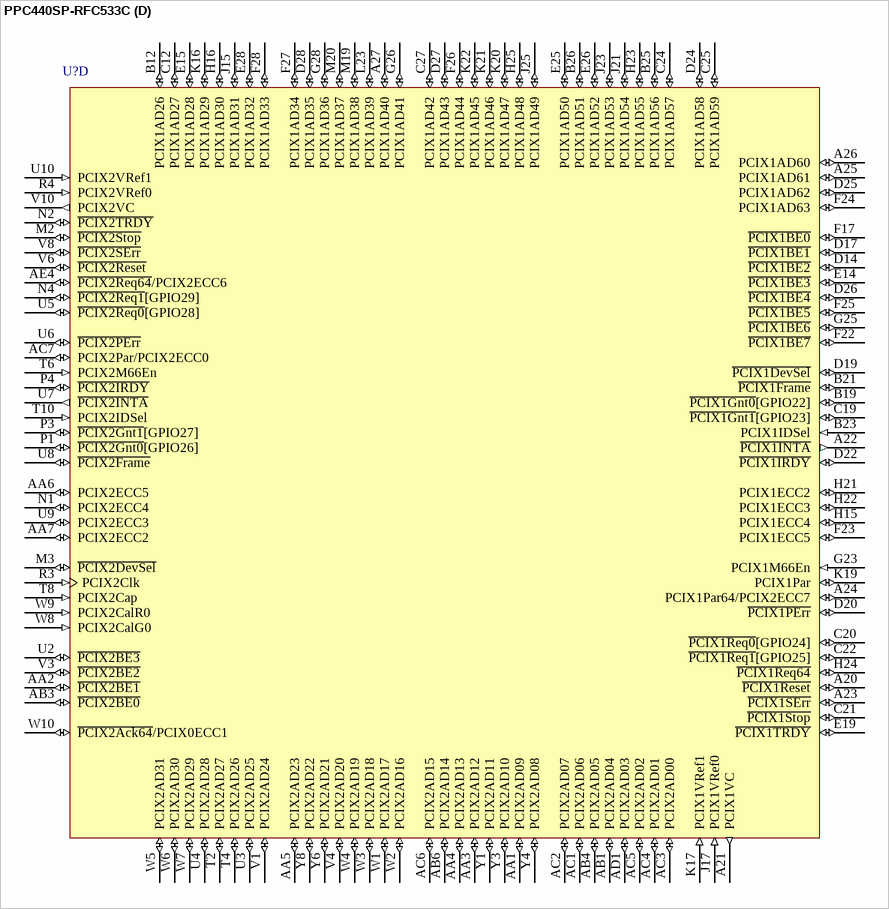
[diagram p391: symbol PPC440SP-RFC533C]

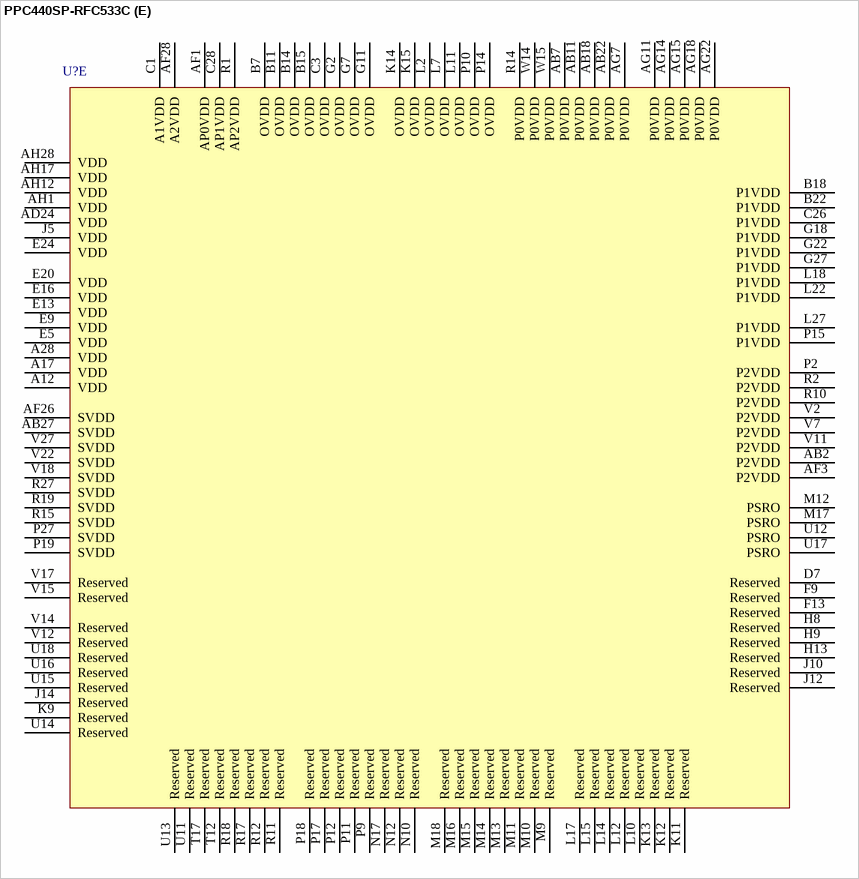
[diagram p392: symbol PPC440SP-RFC533C]

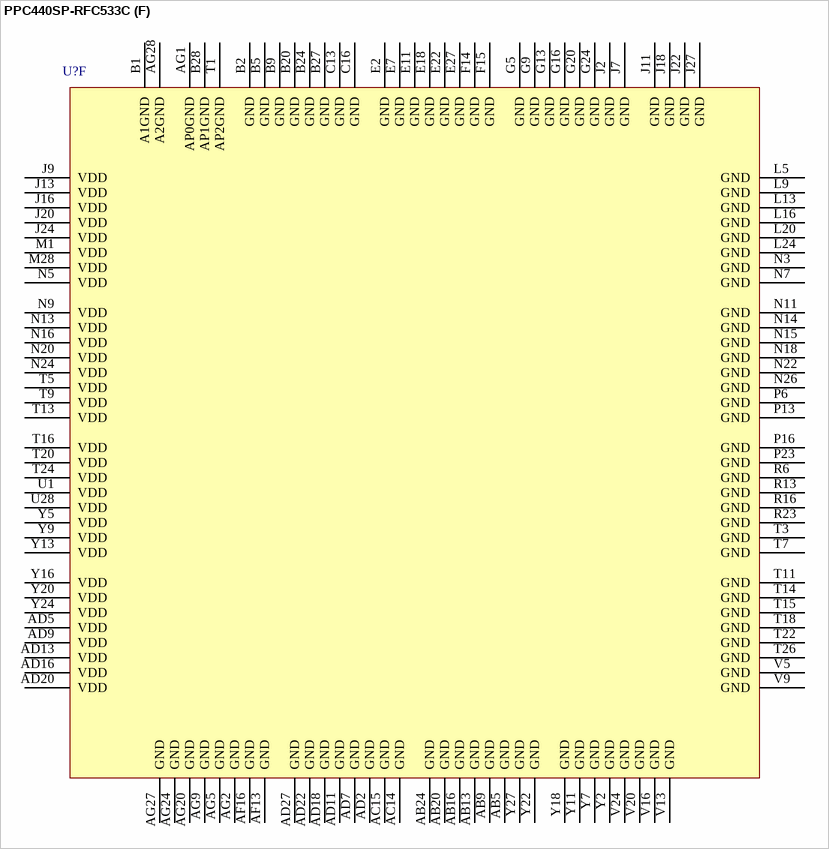
[diagram p393: symbol PPC440SP-RFC533C]

## PPC440SP-RFC533C
designator U?
PowerPC 440SP Embedded Processor, 533MHz, 29mm, 783 Ball FC-PBGA, rev C; Published: 2-Mar-2006; LatestRevisionDate: 13-Apr-2006; LatestRevisionNote: IPC-7351 Footprint Added.; DatasheetVersion: rev1.18, May-2006; PackageVersion: Nov-2005; PackageReference: FC-PBGA783; Publisher: Altium Limited; PackageDescription: 783-Ball Flip Chip Plastic Ball Grid Array; ComponentLink1Description: Manufacturer Link; ComponentLink1URL: http://www.amcc.com/; ComponentLink2Description: Datasheet; ComponentLink2URL: https://www.amcc.com/MyAMCC/retrieveDocument/PowerPC/440SP/PPC440SP_DS2013_v1_18.pdf
footprint FC-PBGA783 (BGA, 783-Leads, Body 29x29mm, Pitch 1mm)
3D model PPC440SP-FC-PBGA783 (783-Ball Flip Chip Plastic Ball Grid Array)
part A pins: A2 EMCTxD7 (out), A3 EMCTxErr (out), A4 PerClk (out), A10 TDI (in), A14 SysPartSel (in), A18 TestEn (in), AA23 ECC5 (io), AA24 DM8 (out), AA26 DM1 (out), AA27 ~{DQS1} (io), AA28 DQS1 (io), AB25 ~{DQS8} (io), AB26 DQS8 (io), AC23 ECC3 (io), AC24 ECC0 (io), AD21 BA0 (out), AD23 ECC4 (io), AD25 ~{DQS0} (io), AD26 DQS0 (io), AE20 BA1 (out), AE23 ClkEn0 (out), AE24 ClkEn1 (out), AE25 BA2 (out), AE26 DM0 (out), AF20 ECC7 (io), AH24 ~{RAS} (out), AH25 ~{CAS} (out), B3 PerErr (in), B4 ~{PerBLast} (out), B6 ~{HISRRst} (in), B8 EMCGTxClk (in), B10 ~{TRST} (in), C2 PerPar0 (io), C4 EMCTxEn (out), C10 TMS (in), D1 EMCMDClk (out), D2 EMCCD (in), D3 EMCRxClk (in), D4 PerData3 (io), D8 TmrClk (in), D10 TCK (in), D11 TDO (out), D12 EMCRefClk (in), E1 EMCTxClk (in), E3 EMCCrS (in), E4 EMCMDIO (io), E6 PerData5 (io), E12 ~{PerCS1}[GPIO09][TrcTS0] (io), F1 EMCTxD1 (out), F2 EMCTxD0 (out), F3 EMCRxD2 (in), F4 EMCRxD0 (in), F5 EMCRxD6 (in), F6 EMCRxD7 (in), F7 EMCRxDV (in), F12 ~{PerOE} (out), G1 EMCRxD3 (in), G3 EMCTxD3 (out), G4 EMCRxD1 (in), G6 PerData6 (io), G8 PerData4 (io), G12 PerReady[GPIO08][TrcES4] (io), G15 ~{SysRes}e~{t} (in), H1 EMCTxD2 (out), H2 EMCRxD5 (in), H3 EMCRxD4 (in), H4 EMCTxD4 (out), H5 PerData0 (io), H6 PerR/~{W} (out), H7 PerData2 (io), H10 ~{PerCS2}[GPIO10][TrcTS1] (io), H11 ~{ExtReset} (out), J1 EMCRxErr (in), J3 SysClk (in), J4 PerAddr00 (out), J6 PerData7 (io), J8 PerData1 (io), J19 SysErr (out), K1 PerAddr19 (out), K2 PerAddr20 (out), K3 EMCTxD6 (out), K4 EMCTxD5 (out), K5 PerAddr02 (out), K6 PerAddr01 (out), K7 PerAddr07 (out), K8 PerAddr08 (out), K10 ~{PerWE} (out), K18 ~{Halt} (in), K25 DQS4 (io), K26 ~{DQS4} (io), K27 DM4 (out), L1 PerAddr17 (out), L3 PerAddr15 (out), L4 PerAddr16 (out), L6 PerAddr04 (out), L8 PerAddr06 (out), L25 DQS5 (io), L26 ~{DQS5} (io), M4 PerAddr18 (out), M5 PerAddr09 (out), M6 ~{PerCS0} (out), M7 PerAddr05 (out), M8 PerAddr03 (out), M21 DM5 (out), N6 PerAddr11 (out), N8 PerAddr10 (out), N27 DQS3 (io), N28 ~{DQS3} (io), P5 PerAddr13 (out), P7 PerAddr14 (out), P8 PerAddr12 (out), P22 ~{BankSel1} (out), P26 DM3 (out), R5 PerAddr22 (out), R7 PerAddr21 (out), R8 PerAddr23 (out), R9 ~{PerBE0}[GPIO17][UART2_Tx] (io), R21 DM6 (out), R25 ~{DQS6} (io), R26 DQS6 (io), T23 ~{BankSel0} (out), U19 DM7 (out), U25 ~{DQS2} (io), U26 DQS2 (io), V19 ~{WE} (out), V25 DM2 (out), W19 ECC6 (io), W26 ~{DQS7} (io), W27 DQS7 (io), Y21 ECC2 (io), Y23 ECC1 (io)
part B pins: A5 GPIO13[IRQ2][TrcTS4] (io), A6 UART1_Tx[GPIO31] (io), A7 UART1_Rx[GPIO30] (io), A8 ~{UART0_DCD} (in), A9 UARTSerClk (in), A11 ~{UART0_DTR} (out), A13 ~{UART0_RI} (in), AA12 GPIO00[TrcClk][~{PCIX0Req2}] (io), AA20 MemVRef0 (in), AA21 MemVRef1 (in), AA22 MemODT0 (out), AA25 MemData13 (io), AB21 MemDCFdbkD (out), AB23 MemData14 (io), AB28 MemData09 (io), AC13 GPIO02[TrcBS1][~{PCIX0Gnt2}] (io), AC21 MemDCFdbkR (in), AC22 MemODT1 (out), AC25 MemData07 (io), AC26 MemData03 (io), AC27 MemData04 (io), AC28 MemData10 (io), AD19 MemAddr02 (out), AD28 MemData00 (io), AE19 MemAddr03 (out), AE21 MemAddr01 (out), AE22 MemAddr06 (out), AE27 MemData01 (io), AE28 MemData05 (io), AF11 GPIO03[TrcBS2][~{PCIX0Gnt3}] (io), AF19 MemAddr11 (out), AF21 MemAddr07 (out), AF22 MemAddr08 (out), AF23 MemAddr00 (out), AF24 MemAddr14 (out), AF25 MemData06 (io), AF27 MemData02 (io), AG21 MemAddr10 (out), AG23 MemAddr09 (out), AG25 ~{MemClkOut0} (out), AG26 MemClkOut0 (out), AH20 MemAddr12 (out), AH21 MemAddr13 (out), AH22 MemAddr04 (out), AH23 MemAddr05 (out), AH26 MemClkOut1 (out), AH27 ~{MemClkOut1} (out), C5 GPIO14[IRQ3][TrcTS5] (io), C6 GPIO12[IRQ1][TrcTS3] (io), C7 GPIO11[IRQ0][TrcTS2] (io), C8 UART0_Tx (out), C9 ~{UART0_CTS} (in), C11 ~{UART0_DSR} (in), C23 GPIO04[TrcES0][~{PCIX1Req2}] (io), D5 GPIO16[IRQ5][UART2_Rx] (io), D6 GPIO15[IRQ4][TrcTS6] (io), D9 IIC0SClk (io), D21 GPIO06[TrcES2][~{PCIX1Gnt2}] (io), D23 GPIO07[TrcES3][~{PCIX1Gnt3}] (io), E8 IIC0SDA (io), E10 IIC1SDA (io), E23 GPIO05[TrcES1][~{PCIX1Req3}] (io), F8 IIC1SClk (io), F10 ~{UART1_DSR}/~{CTS} (in), F11 ~{UART0_RTS} (out), G10 ~{UART1}_/~{DTR}/~{RTS} (out), H12 UART0_Rx (in), H26 MemData39 (io), H27 MemData36 (io), H28 MemData35 (io), J26 MemData32 (io), J28 MemData37 (io), K24 MemData45 (io), K28 MemData33 (io), L28 MemData34 (io), M22 MemData42 (io), M23 MemData41 (io), M24 MemData46 (io), M25 MemData31 (io), M26 MemData28 (io), M27 MemData27 (io), N19 MemData47 (io), N21 MemData44 (io), N23 MemData43 (io), N25 MemData24 (io), P20 MemData40 (io), P21 MemData38 (io), P24 MemData54 (io), P25 MemData29 (io), P28 MemData25 (io), R20 MemData53 (io), R22 MemData49 (io), R24 MemData50 (io), R28 MemData26 (io), T19 MemData52 (io), T21 MemData55 (io), T25 MemData19 (io), T27 MemData20 (io), T28 MemData23 (io), U20 MemData57 (io), U21 MemData58 (io), U22 MemData51 (io), U23 MemData48 (io), U24 MemData30 (io), U27 MemData16 (io), V21 MemData62 (io), V23 MemData61 (io), V26 MemData21 (io), V28 MemData17 (io), W20 MemData63 (io), W21 MemData60 (io), W22 MemData56 (io), W23 MemData22 (io), W24 MemData59 (io), W25 MemData15 (io), W28 MemData18 (io), Y12 GPIO01[TrcBS0][~{PCIX0Req3}] (io), Y25 MemData12 (io), Y26 MemData08 (io), Y28 MemData11 (io)
part C pins: A15 PCIX1AD16 (io), A16 PCIX1AD19 (io), A19 PCIX1AD03 (io), AA8 PCIX0CalG0 (in), AA9 PCIX0AD09 (io), AA10 PCIX0AD13 (io), AA11 PCIX0AD07 (io), AA13 PCIX0Cap (in), AA14 PCIX0AD58 (io), AA15 PCIX0AD63 (io), AA16 PCIX0AD61 (io), AA17 PCIX0AD43 (io), AA18 PCIX0AD37 (io), AA19 PCIX0CalR1 (in), AB8 PCIX0CalR0 (in), AB10 PCIX0AD14 (io), AB12 ~{PCIX0INTA} (out), AB14 PCIX0AD56 (io), AB15 PCIX0AD57 (io), AB17 PCIX0AD45 (io), AB19 PCIX0AD47 (io), AC8 PCIX0AD10 (io), AC9 PCIX0AD08 (io), AC10 PCIX0VRef1 (in), AC11 PCIX0VRef0 (in), AC12 ~{PCIX0Frame} (io), AC16 PCIX0AD62 (io), AC17 PCIX0AD46 (io), AC18 PCIX0AD48 (io), AC19 PCIX0AD44 (io), AC20 PCIX0AD39 (io), AD3 PCIX0ECC5 (io), AD4 PCIX0AD28 (io), AD6 PCIX0AD21 (io), AD8 PCIX0AD11 (io), AD10 PCIX0AD12 (io), AD12 ~{PCIX0SErr} (io), AD14 PCIX0M66En (in), AD15 PCIX0AD55 (io), AD17 PCIX0AD36 (io), AE1 PCIX0AD30 (io), AE2 PCIX0AD31 (io), AE3 PCIX0AD27 (io), AE5 PCIX0AD29 (io), AE6 ~{PCIX0BE3} (io), AE7 ~{PCIX0BE2} (io), AE8 PCIX0AD18 (io), AE9 PCIX0AD03 (io), AE10 PCIX0AD02 (io), AE11 PCIX0AD01 (io), AE12 PCIX0AD00 (io), AE13 ~{PCIX0Stop} (io), AE14 ~{PCIX0BE7} (io), AE15 PCIX0AD54 (io), AE16 ~{PCIX0BE6} (io), AE17 PCIX0AD40 (io), AE18 PCIX0AD32 (io), AF2 PCIX0AD26 (io), AF4 PCIX0AD20 (io), AF5 PCIX0AD19 (io), AF6 PCIX0AD16 (io), AF7 PCIX0AD17 (io), AF8 PCIX0AD23 (io), AF9 ~{PCIX0BE0} (io), AF10 PCIX0AD04 (io), AF12 PCIX0Clk (in), AF14 ~{PCIX0Gnt0}[GPIO18] (io), AF15 PCIX0AD52 (io), AF17 PCIX0AD51 (io), AF18 PCIX0AD33 (io), AG3 PCIX0ECC2 (io), AG4 PCIX0AD22 (io), AG6 PCIX0Par (io), AG8 ~{PCIX0Req64} (io), AG10 ~{PCIX0BE1} (io), AG12 ~{PCIX0Req1}[GPIO21] (io), AG13 ~{PCIX0Gnt1}[GPIO19] (io), AG16 PCIX0AD50 (io), AG17 ~{PCIX0BE5} (io), AG19 PCIX0AD35 (io), AH2 PCIX0AD24 (io), AH3 PCIX0AD25 (io), AH4 PCIX0ECC3 (io), AH5 PCIX0ECC4 (io), AH6 ~{PCIX0Ack64} (io), AH7 PCIX0AD15 (io), AH8 PCIX0AD05 (io), AH9 PCIX0AD06 (io), AH10 PCIX0VC (out), AH11 ~{PCIX0Req0}[GPIO20] (io), AH13 ~{PCIX0Reset} (io), AH14 PCIX0Par64 (io), AH15 PCIX0AD53 (io), AH16 ~{PCIX0BE4} (io), AH18 PCIX0AD49 (io), AH19 PCIX0AD34 (io), B13 PCIX1AD25 (io), B16 PCIX1AD11 (io), B17 PCIX1AD10 (io), C14 PCIX1AD17 (io), C15 PCIX1AD18 (io), C17 PCIX1AD08 (io), C18 PCIX1AD01 (io), D13 PCIX1AD24 (io), D15 PCIX1AD20 (io), D16 PCIX1AD09 (io), D18 PCIX1AD00 (io), E17 PCIX1AD12 (io), E21 PCIX1Clk (in), F16 PCIX1AD04 (io), F18 PCIX1AD02 (io), F19 PCIX1AD14 (io), F20 PCIX1AD06 (io), F21 PCIX1AD07 (io), G14 PCIX1CalG1 (in), G17 PCIX1AD22 (io), G19 PCIX1AD15 (io), G21 PCIX1Cap (in), H14 PCIX1CalR1 (in), H17 PCIX1AD21 (io), H18 PCIX1AD23 (io), H19 PCIX1AD13 (io), H20 PCIX1AD05 (io), K23 ~{PCIX1Ack64} (io), L19 PCIX1CalG0 (in), L21 PCIX1CalR0 (in), W11 ~{PCIX0PErr} (io), W12 ~{PCIX0TRDY} (io), W13 ~{PCIX0IRDY} (io), W16 PCIX0AD60 (io), W17 PCIX0AD42 (io), W18 PCIX0AD38 (io), Y10 ~{PCIX0DevSel} (io), Y14 PCIX0IDSel (in), Y15 PCIX0AD59 (io), Y17 PCIX0AD41 (io), Y19 PCIX0CalG1 (in)
part D pins: A20 ~{PCIX1Reset} (io), A21 PCIX1VC (out), A22 ~{PCIX1INTA} (out), A23 ~{PCIX1SErr} (io), A24 PCIX1Par64/PCIX2ECC7 (io), A25 PCIX1AD61 (io), A26 PCIX1AD60 (io), A27 PCIX1AD40 (io), AA1 PCIX2AD09 (io), AA2 ~{PCIX2BE1} (io), AA3 PCIX2AD12 (io), AA4 PCIX2AD13 (io), AA5 PCIX2AD23 (io), AA6 PCIX2ECC5 (io), AA7 PCIX2ECC2 (io), AB1 PCIX2AD04 (io), AB3 ~{PCIX2BE0} (io), AB4 PCIX2AD05 (io), AB6 PCIX2AD14 (io), AC1 PCIX2AD06 (io), AC2 PCIX2AD07 (io), AC3 PCIX2AD00 (io), AC4 PCIX2AD01 (io), AC5 PCIX2AD02 (io), AC6 PCIX2AD15 (io), AC7 PCIX2Par/PCIX2ECC0 (io), AD1 PCIX2AD03 (io), AE4 ~{PCIX2Req64}/PCIX2ECC6 (io), B12 PCIX1AD26 (io), B19 ~{PCIX1Gnt0}[GPIO22] (io), B21 ~{PCIX1Frame} (io), B23 PCIX1IDSel (in), B25 PCIX1AD56 (io), B26 PCIX1AD51 (io), C12 PCIX1AD27 (io), C19 ~{PCIX1Gnt1}[GPIO23] (io), C20 ~{PCIX1Req0}[GPIO24] (io), C21 ~{PCIX1Stop} (io), C22 ~{PCIX1Req1}[GPIO25] (io), C24 PCIX1AD57 (io), C25 PCIX1AD59 (io), C27 PCIX1AD42 (io), D14 ~{PCIX1BE2} (io), D17 ~{PCIX1BE1} (io), D19 ~{PCIX1DevSel} (io), D20 ~{PCIX1PErr} (io), D22 ~{PCIX1IRDY} (io), D24 PCIX1AD58 (io), D25 PCIX1AD62 (io), D26 ~{PCIX1BE4} (io), D27 PCIX1AD43 (io), D28 PCIX1AD35 (io), E14 ~{PCIX1BE3} (io), E15 PCIX1AD28 (io), E19 ~{PCIX1TRDY} (io), E25 PCIX1AD50 (io), E26 PCIX1AD52 (io), E28 PCIX1AD32 (io), F17 ~{PCIX1BE0} (io), F22 ~{PCIX1BE7} (io), F23 PCIX1ECC5 (io), F24 PCIX1AD63 (io), F25 ~{PCIX1}~{BE5} (io), F26 PCIX1AD44 (io), F27 PCIX1AD34 (io), F28 PCIX1AD33 (io), G23 PCIX1M66En (in), G25 ~{PCIX1BE6} (io), G26 PCIX1AD41 (io), G28 PCIX1AD36 (io), H15 PCIX1ECC4 (io), H16 PCIX1AD30 (io), H21 PCIX1ECC2 (io), H22 PCIX1ECC3 (io), H23 PCIX1AD55 (io), H24 ~{PCIX1Req64} (io), H25 PCIX1AD48 (io), J15 PCIX1AD31 (io), J17 PCIX1VRef0 (in), J21 PCIX1AD54 (io), J23 PCIX1AD53 (io), J25 PCIX1AD49 (io), K16 PCIX1AD29 (io), K17 PCIX1VRef1 (in), K19 PCIX1Par (io), K20 PCIX1AD47 (io), K21 PCIX1AD46 (io), K22 PCIX1AD45 (io), L23 PCIX1AD39 (io), M2 ~{PCIX2Stop} (io), M3 ~{PCIX2DevSel} (io), M19 PCIX1AD38 (io), M20 PCIX1AD37 (io), N1 PCIX2ECC4 (io), N2 ~{PCIX2TRDY} (io), N4 ~{PCIX2Req1}[GPIO29] (io), P1 ~{PCIX2Gnt0}[GPIO26] (io), P3 ~{PCIX2Gnt1}[GPIO27] (io), P4 ~{PCIX2IRDY} (io), R3 PCIX2Clk (in), R4 PCIX2VRef0 (in), T2 PCIX2AD27 (io), T4 PCIX2AD26 (io), T6 PCIX2M66En (in), T8 PCIX2Cap (in), T10 PCIX2IDSel (in), U2 ~{PCIX2BE3} (io), U3 PCIX2AD25 (io), U4 PCIX2AD28 (io), U5 ~{PCIX2Req0}[GPIO28] (io), U6 ~{PCIX2PErr} (io), U7 ~{PCIX2INTA} (out), U8 ~{PCIX2Frame} (io), U9 PCIX2ECC3 (io), U10 PCIX2VRef1 (in), V1 PCIX2AD24 (io), V3 ~{PCIX2BE2} (io), V4 PCIX2AD20 (io), V6 ~{PCIX2Reset} (io), V8 ~{PCIX2SErr} (io), V10 PCIX2VC (out), W1 PCIX2AD17 (io), W2 PCIX2AD16 (io), W3 PCIX2AD18 (io), W4 PCIX2AD19 (io), W5 PCIX2AD31 (io), W6 PCIX2AD30 (io), W7 PCIX2AD29 (io), W8 PCIX2CalG0 (in), W9 PCIX2CalR0 (in), W10 ~{PCIX2Ack64}/PCIX0ECC1 (io), Y1 PCIX2AD11 (io), Y3 PCIX2AD10 (io), Y4 PCIX2AD08 (io), Y6 PCIX2AD21 (io), Y8 PCIX2AD22 (io)
part E pins: A12 VDD (power), A17 VDD (power), A28 VDD (power), AB2 P2VDD (power), AB7 P0VDD (power), AB11 P0VDD (power), AB18 P0VDD (power), AB22 P0VDD (power), AB27 SVDD (power), AD24 VDD (power), AF1 AP0VDD (power), AF3 P2VDD (power), AF26 SVDD (power), AF28 A2VDD (power), AG7 P0VDD (power), AG11 P0VDD (power), AG14 P0VDD (power), AG15 P0VDD (power), AG18 P0VDD (power), AG22 P0VDD (power), AH1 VDD (power), AH12 VDD (power), AH17 VDD (power), AH28 VDD (power), B7 OVDD (power), B11 OVDD (power), B14 OVDD (power), B15 OVDD (power), B18 P1VDD (power), B22 P1VDD (power), C1 A1VDD (power), C3 OVDD (power), C26 P1VDD (power), C28 AP1VDD (power), D7 Reserved, E5 VDD (power), E9 VDD (power), E13 VDD (power), E16 VDD (power), E20 VDD (power), E24 VDD (power), F9 Reserved, F13 Reserved, G2 OVDD (power), G7 OVDD (power), G11 OVDD (power), G18 P1VDD (power), G22 P1VDD (power), G27 P1VDD (power), H8 Reserved, H9 Reserved, H13 Reserved, J5 VDD (power), J10 Reserved, J12 Reserved, J14 Reserved, K9 Reserved, K11 Reserved, K12 Reserved, K13 Reserved, K14 OVDD (power), K15 OVDD (power), L2 OVDD (power), L7 OVDD (power), L10 Reserved, L11 OVDD (power), L12 Reserved, L14 Reserved, L15 Reserved, L17 Reserved, L18 P1VDD (power), L22 P1VDD (power), L27 P1VDD (power), M9 Reserved, M10 Reserved, M11 Reserved, M12 PSRO (power), M13 Reserved, M14 Reserved, M15 Reserved, M16 Reserved, M17 PSRO (power), M18 Reserved, N10 Reserved, N12 Reserved, N17 Reserved, P2 P2VDD (power), P9 Reserved, P10 OVDD (power), P11 Reserved, P12 Reserved, P14 OVDD (power), P15 P1VDD (power), P17 Reserved, P18 Reserved, P19 SVDD (power), P27 SVDD (power), R1 AP2VDD (power), R2 P2VDD (power), R10 P2VDD (power), R11 Reserved, R12 Reserved, R14 P0VDD (power), R15 SVDD (power), R17 Reserved, R18 Reserved, R19 SVDD (power), R27 SVDD (power), T12 Reserved, T17 Reserved, U11 Reserved, U12 PSRO (power), U13 Reserved, U14 Reserved, U15 Reserved, U16 Reserved, U17 PSRO (power), U18 Reserved, V2 P2VDD (power), V7 P2VDD (power), V11 P2VDD (power), V12 Reserved, V14 Reserved, V15 Reserved, V17 Reserved, V18 SVDD (power), V22 SVDD (power), V27 SVDD (power), W14 P0VDD (power), W15 P0VDD (power)
part F pins: AB5 GND (power), AB9 GND (power), AB13 GND (power), AB16 GND (power), AB20 GND (power), AB24 GND (power), AC14 GND (power), AC15 GND (power), AD2 GND (power), AD5 VDD (power), AD7 GND (power), AD9 VDD (power), AD11 GND (power), AD13 VDD (power), AD16 VDD (power), AD18 GND (power), AD20 VDD (power), AD22 GND (power), AD27 GND (power), AF13 GND (power), AF16 GND (power), AG1 AP0GND (power), AG2 GND (power), AG5 GND (power), AG9 GND (power), AG20 GND (power), AG24 GND (power), AG27 GND (power), AG28 A2GND (power), B1 A1GND (power), B2 GND (power), B5 GND (power), B9 GND (power), B20 GND (power), B24 GND (power), B27 GND (power), B28 AP1GND (power), C13 GND (power), C16 GND (power), E2 GND (power), E7 GND (power), E11 GND (power), E18 GND (power), E22 GND (power), E27 GND (power), F14 GND (power), F15 GND (power), G5 GND (power), G9 GND (power), G13 GND (power), G16 GND (power), G20 GND (power), G24 GND (power), J2 GND (power), J7 GND (power), J9 VDD (power), J11 GND (power), J13 VDD (power), J16 VDD (power), J18 GND (power), J20 VDD (power), J22 GND (power), J24 VDD (power), J27 GND (power), L5 GND (power), L9 GND (power), L13 GND (power), L16 GND (power), L20 GND (power), L24 GND (power), M1 VDD (power), M28 VDD (power), N3 GND (power), N5 VDD (power), N7 GND (power), N9 VDD (power), N11 GND (power), N13 VDD (power), N14 GND (power), N15 GND (power), N16 VDD (power), N18 GND (power), N20 VDD (power), N22 GND (power), N24 VDD (power), N26 GND (power), P6 GND (power), P13 GND (power), P16 GND (power), P23 GND (power), R6 GND (power), R13 GND (power), R16 GND (power), R23 GND (power), T1 AP2GND (power), T3 GND (power), T5 VDD (power), T7 GND (power), T9 VDD (power), T11 GND (power), T13 VDD (power), T14 GND (power), T15 GND (power), T16 VDD (power), T18 GND (power), T20 VDD (power), T22 GND (power), T24 VDD (power), T26 GND (power), U1 VDD (power), U28 VDD (power), V5 GND (power), V9 GND (power), V13 GND (power), V16 GND (power), V20 GND (power), V24 GND (power), Y2 GND (power), Y5 VDD (power), Y7 GND (power), Y9 VDD (power), Y11 GND (power), Y13 VDD (power), Y16 VDD (power), Y18 GND (power), Y20 VDD (power), Y22 GND (power), Y24 VDD (power), Y27 GND (power)

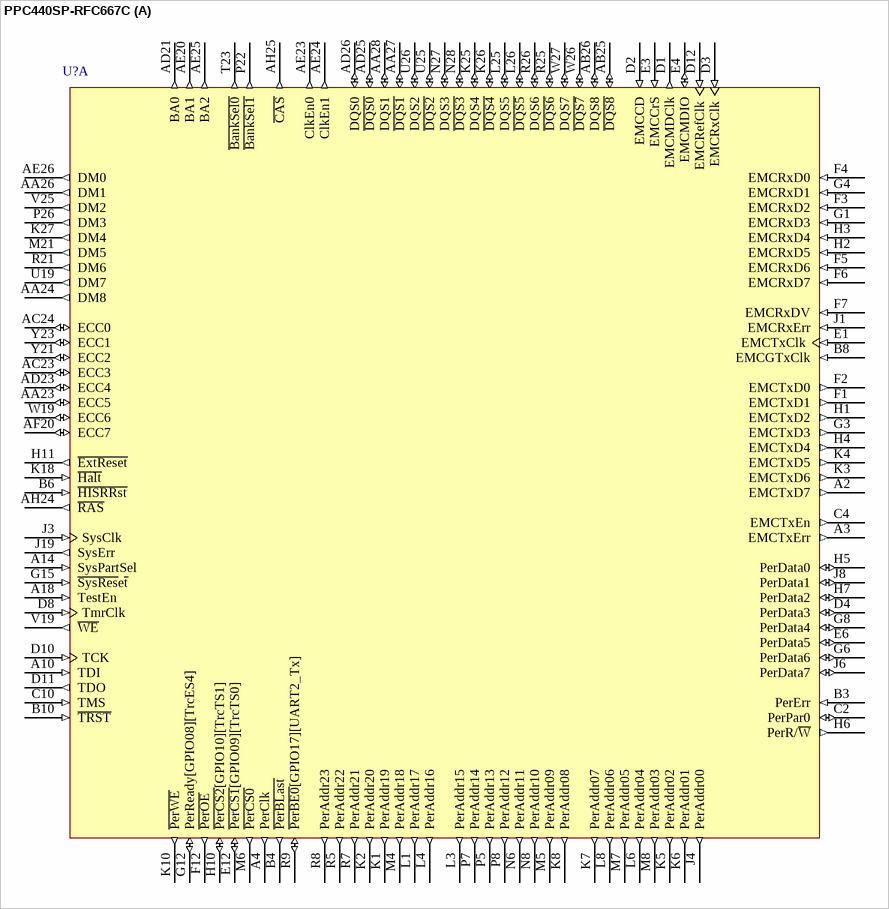
[diagram p394: symbol PPC440SP-RFC667C]

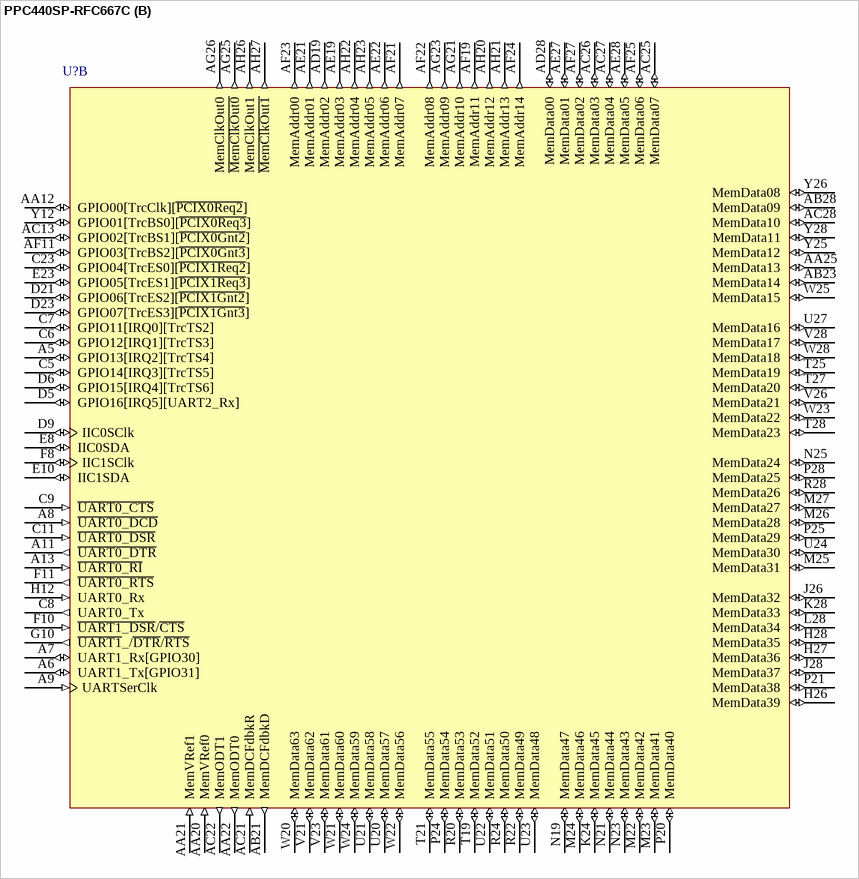
[diagram p395: symbol PPC440SP-RFC667C]

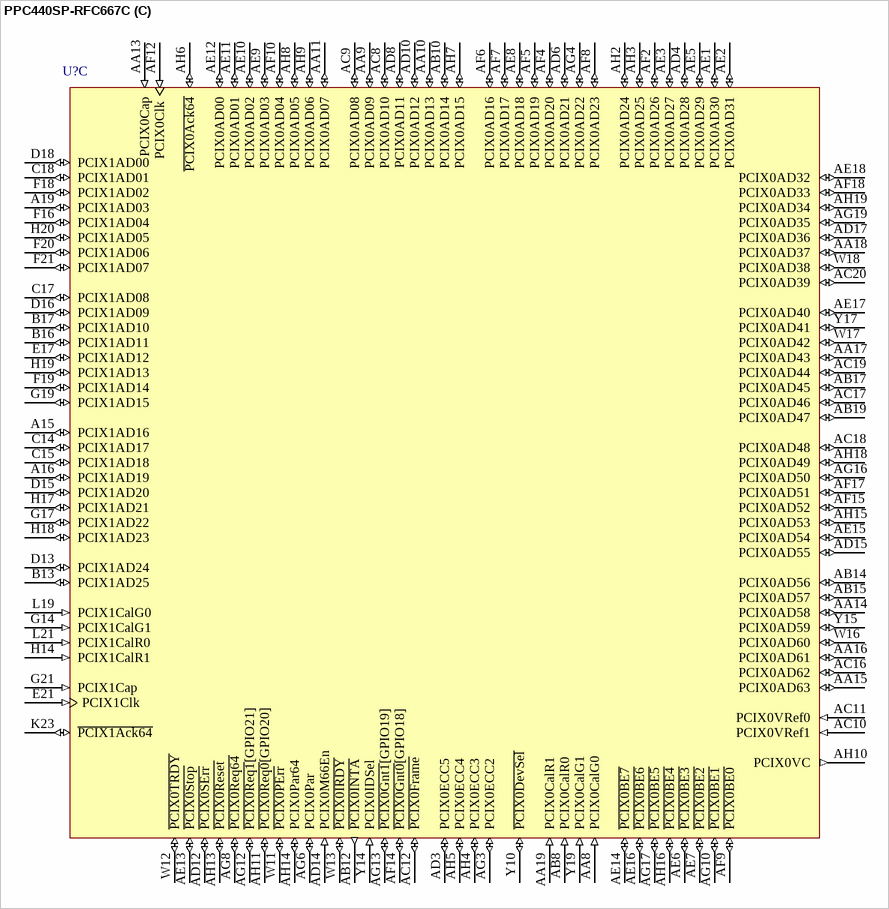
[diagram p396: symbol PPC440SP-RFC667C]

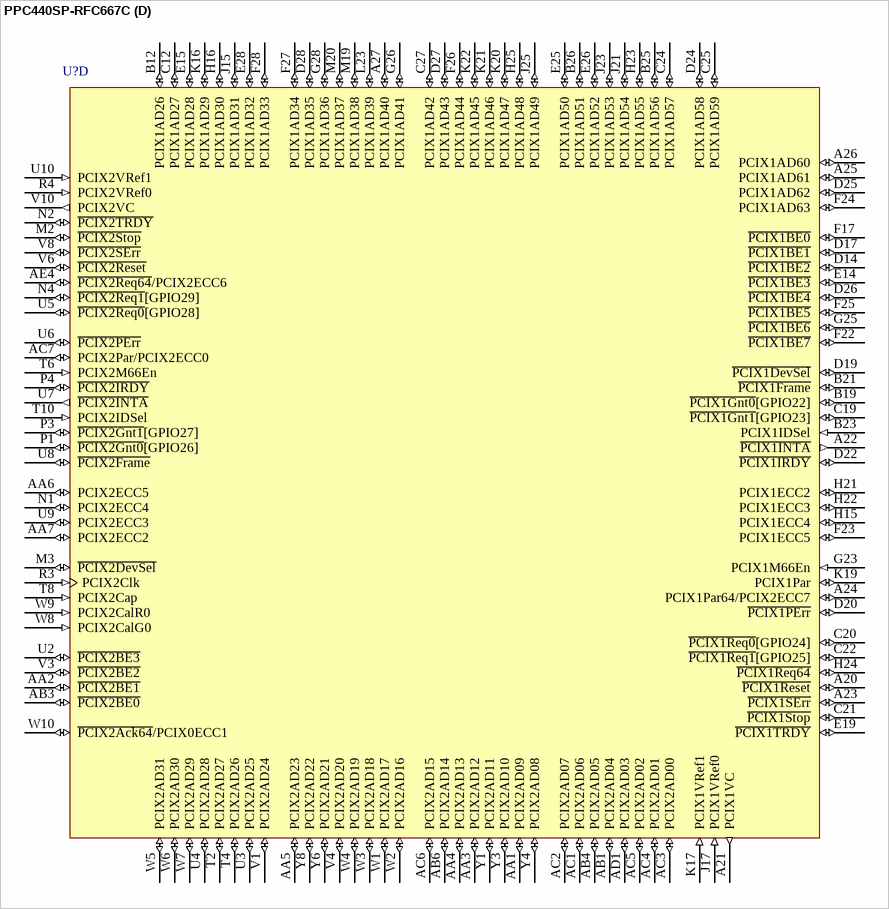
[diagram p397: symbol PPC440SP-RFC667C]

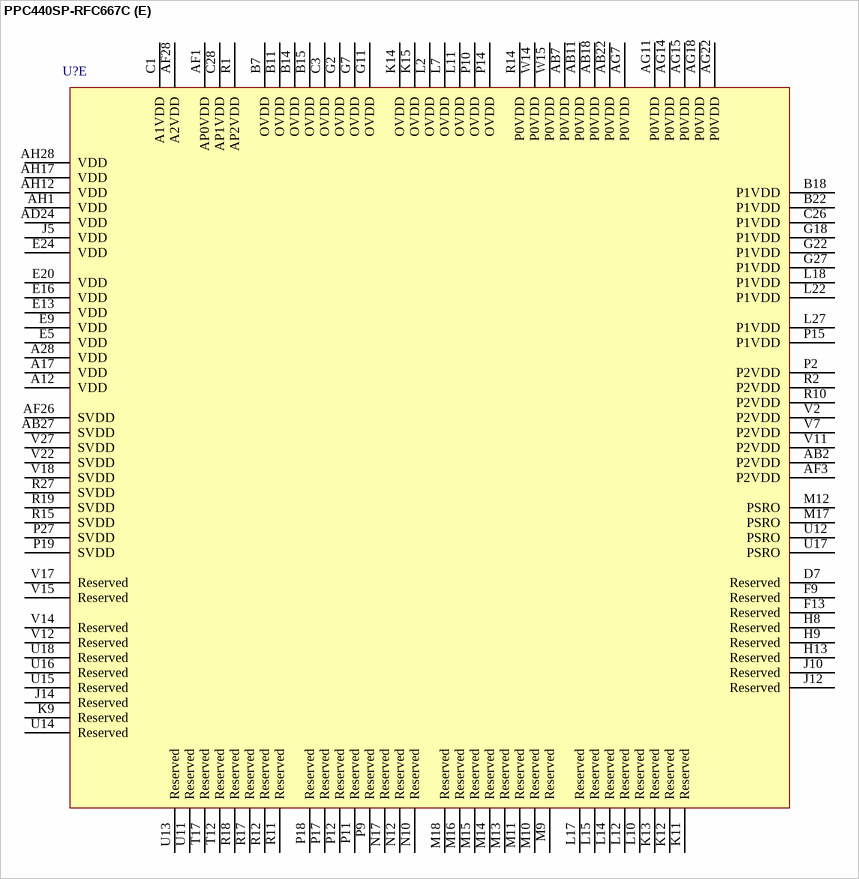
[diagram p398: symbol PPC440SP-RFC667C]

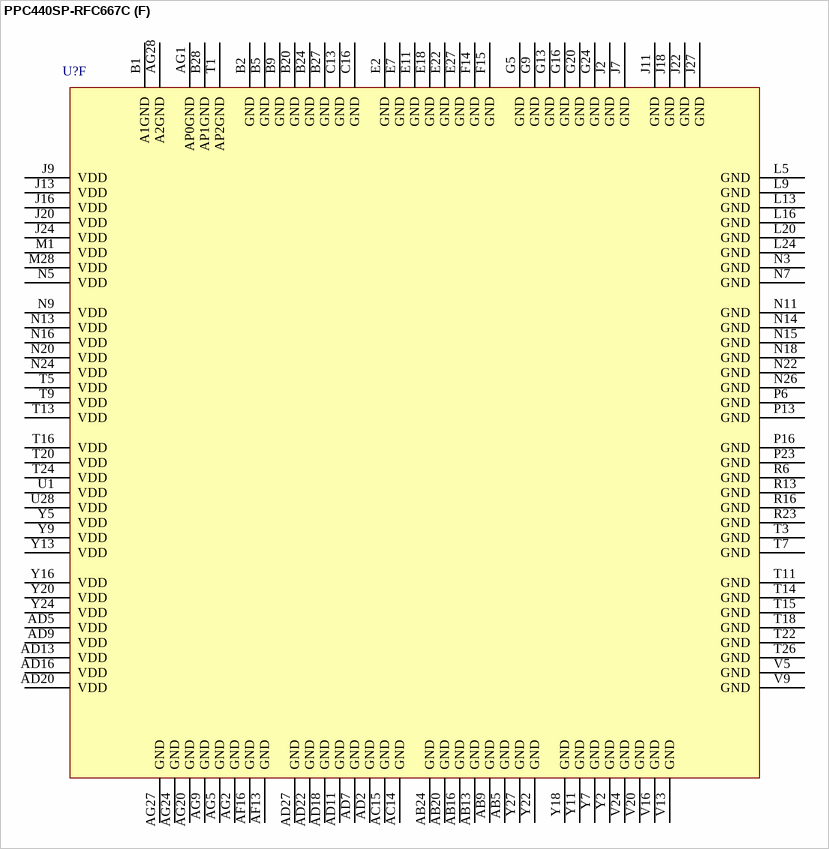
[diagram p399: symbol PPC440SP-RFC667C]